# Altium integrated library Renesas Microcontroller 740.IntLib: 274 symbols (part 3 of 13)
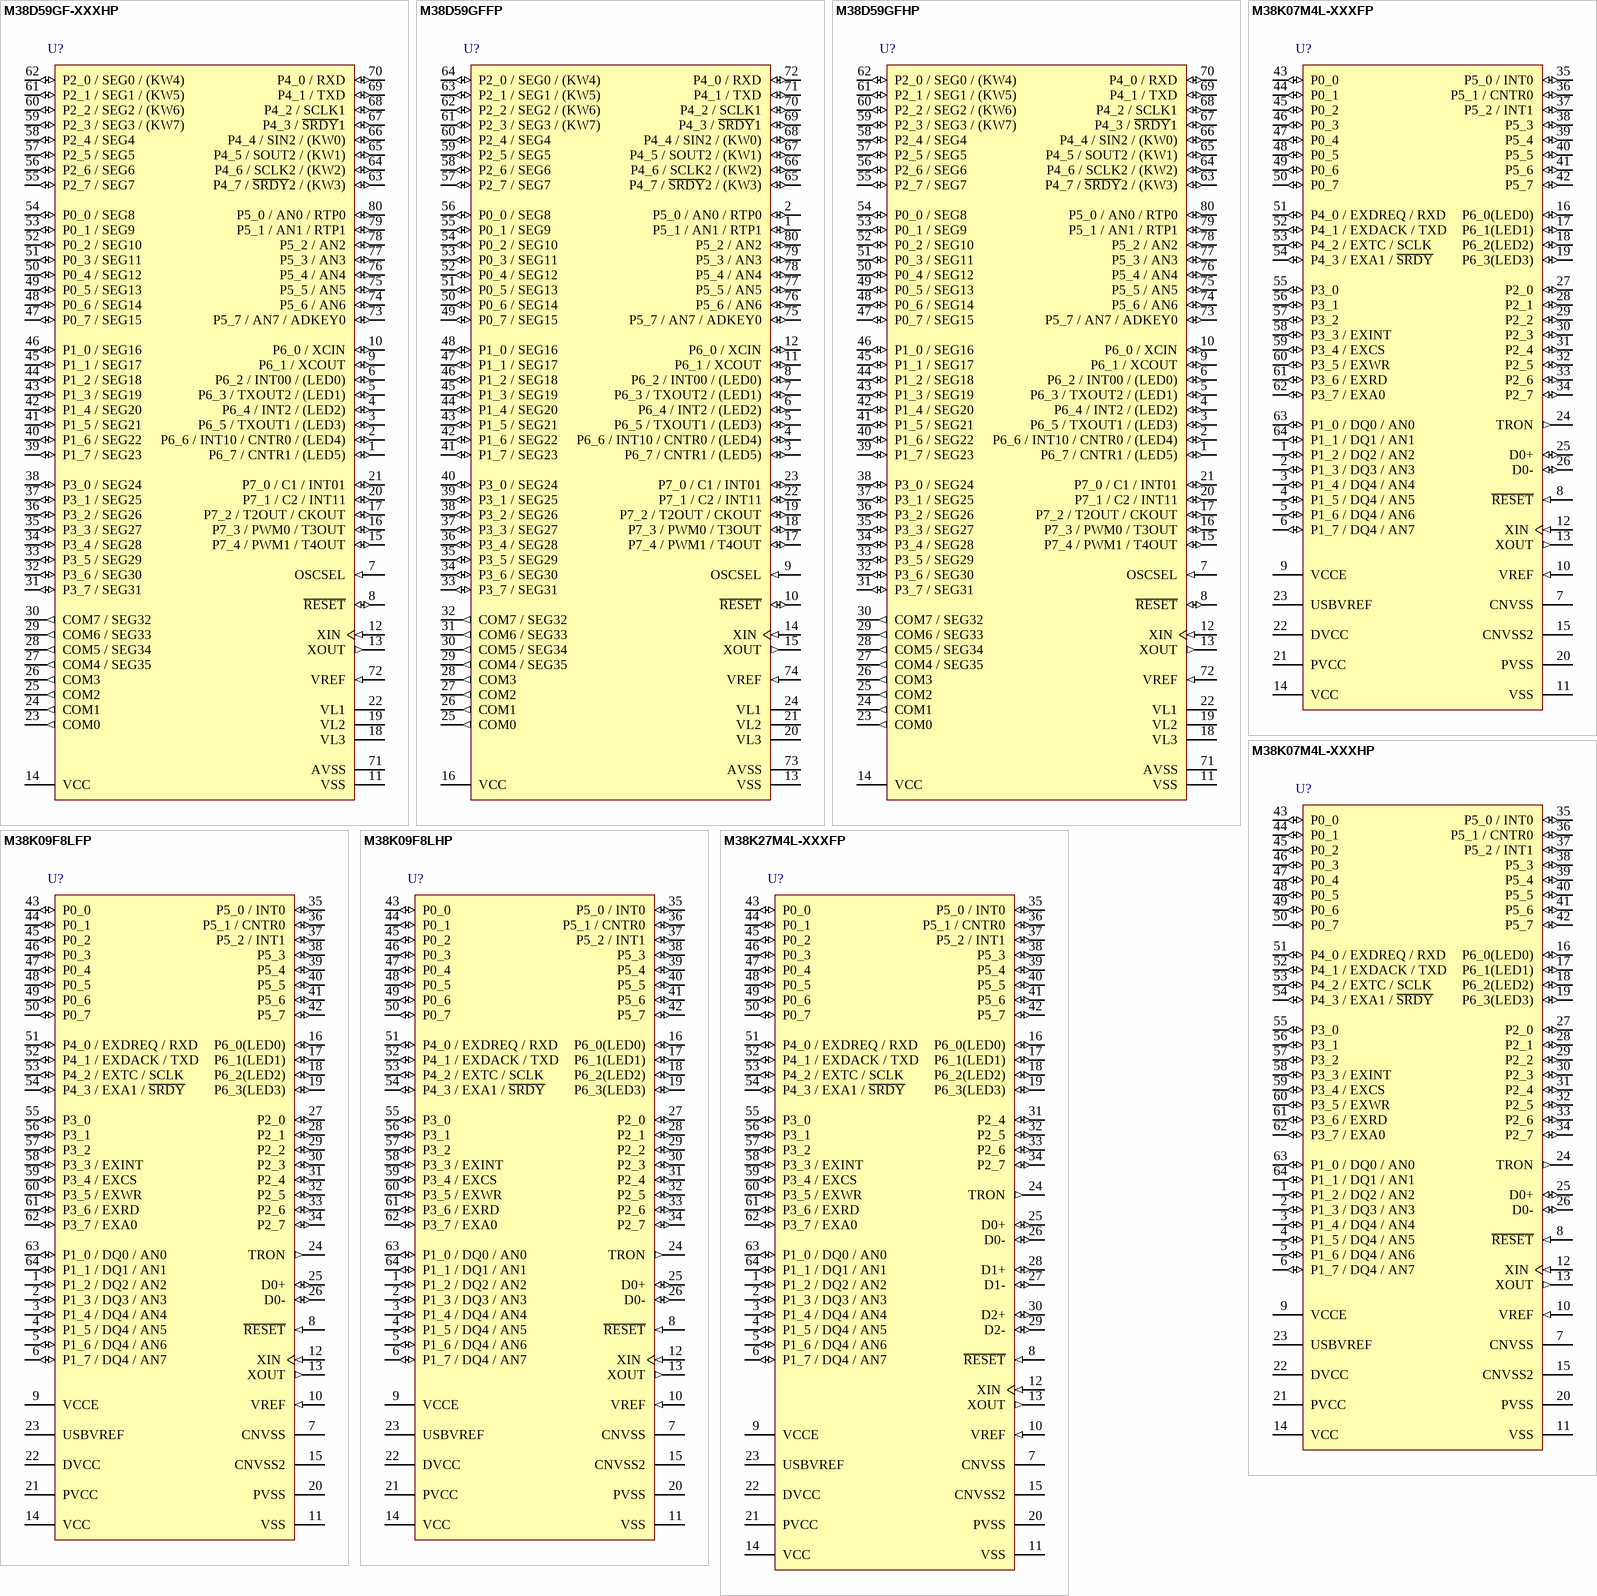
[diagram p39: symbols M38D59GF-XXXHP to M38K27M4L-XXXFP]

## M38K07M4L-XXXFP
designator U?
Mask ROM 8-BIT CMOS Microcomputer, 38000/740 Series CPU, 38K0 Group, 16K ROM, 1K RAM, 64P6U-A Pkg; Published: 28-Aug-2009; DatasheetVersion: Rev.2.00, Oct-2006; PackageVersion: Oct-2005; PackageReference: PLQP0064GA-A; Publisher: Altium Limited; PackageDescription: 64-Pin Plastic Low Profile QFP, 14 x 14 x 1.4 mm Body, 0.8 mm Pitch; Code_JEITA: P-LQFP64-14x14-0.80; ComponentLink1Description: Manufacturer Link; ComponentLink1URL: http://sg.renesas.com/fmwk.jsp?cnt=740_family_landing.jsp&fp=/products/mpumcu/740_family/; ComponentLink2Description: Datasheet; ComponentLink2URL: http://documentation.renesas.com/eng/products/mpumcu/rej09b0337_38k0um.pdf; ComponentLink3Description: Packaging Specification; ComponentLink3URL: http://sg.renesas.com/media/products/common_info/package/pdf/ic/code/plqp0064ga_a.pdf
footprint PLQP0064GA-A_N (QFP, 64-Leads, Body 14x14mm, Pitch 0.8mm, IPC Medium Density)
footprint PLQP0064GA-A_L (QFP, 64-Leads, Body 14x14mm, Pitch 0.8mm, IPC High Density)
footprint PLQP0064GA-A_M (QFP, 64-Leads, Body 14x14mm, Pitch 0.8mm, IPC Low Density)
pins: 1 P1_2 / DQ2 / AN2 (io), 2 P1_3 / DQ3 / AN3 (io), 3 P1_4 / DQ4 / AN4 (io), 4 P1_5 / DQ4 / AN5 (io), 5 P1_6 / DQ4 / AN6 (io), 6 P1_7 / DQ4 / AN7 (io), 7 CNVSS (power), 8 ~{RESET} (in), 9 VCCE (power), 10 VREF (in), 11 VSS (power), 12 XIN (in), 13 XOUT (out), 14 VCC (power), 15 CNVSS2 (power), 16 P6_0(LED0) (io), 17 P6_1(LED1) (io), 18 P6_2(LED2) (io), 19 P6_3(LED3) (io), 20 PVSS (power), 21 PVCC (power), 22 DVCC (power), 23 USBVREF (power), 24 TRON (out), 25 D0+ (io), 26 D0- (io), 27 P2_0 (io), 28 P2_1 (io), 29 P2_2 (io), 30 P2_3 (io), 31 P2_4 (io), 32 P2_5 (io), 33 P2_6 (io), 34 P2_7 (io), 35 P5_0 / INT0 (io), 36 P5_1 / CNTR0 (io), 37 P5_2 / INT1 (io), 38 P5_3 (io), 39 P5_4 (io), 40 P5_5 (io), 41 P5_6 (io), 42 P5_7 (io), 43 P0_0 (io), 44 P0_1 (io), 45 P0_2 (io), 46 P0_3 (io), 47 P0_4 (io), 48 P0_5 (io), 49 P0_6 (io), 50 P0_7 (io), 51 P4_0 / EXDREQ / RXD (io), 52 P4_1 / EXDACK / TXD (io), 53 P4_2 / EXTC / SCLK (io), 54 P4_3 / EXA1 / ~{SRDY} (io), 55 P3_0 (io), 56 P3_1 (io), 57 P3_2 (io), 58 P3_3 / EXINT (io), 59 P3_4 / EXCS (io), 60 P3_5 / EXWR (io), 61 P3_6 / EXRD (io), 62 P3_7 / EXA0 (io), 63 P1_0 / DQ0 / AN0 (io), 64 P1_1 / DQ1 / AN1 (io)

## M38K07M4L-XXXHP
designator U?
Mask ROM 8-BIT CMOS Microcomputer, 38000/740 Series CPU, 38K0 Group, 16K ROM, 1K RAM, 64P6Q-A Pkg; Published: 28-Aug-2009; DatasheetVersion: Rev.2.00, Oct-2006; PackageVersion: Sep-2005; PackageReference: PLQP0064KB-A; Publisher: Altium Limited; PackageDescription: 64-Pin Plastic Low Profile QFP, 10 x 10 x 1.4 mm Body, 0.5 mm Pitch; Code_JEITA: P-LQFP64-10x10-0.50; Code_IPC: SQFP50P1200X1200-64; ComponentLink1Description: Manufacturer Link; ComponentLink1URL: http://sg.renesas.com/fmwk.jsp?cnt=740_family_landing.jsp&fp=/products/mpumcu/740_family/; ComponentLink2Description: Datasheet; ComponentLink2URL: http://documentation.renesas.com/eng/products/mpumcu/rej09b0337_38k0um.pdf; ComponentLink3Description: Packaging Specification; ComponentLink3URL: http://sg.renesas.com/media/products/common_info/package/pdf/ic/code/plqp0064kb_a.pdf
footprint PLQP0064KB-A_N (Shrink QFP, 64-Leads, Body 10x10mm, Pitch 0.5mm, IPC Medium Density)
footprint PLQP0064KB-A_L (Shrink QFP, 64-Leads, Body 10x10mm, Pitch 0.5mm, IPC High Density)
footprint PLQP0064KB-A_M (Shrink QFP, 64-Leads, Body 10x10mm, Pitch 0.5mm, IPC Low Density)
pins: 1 P1_2 / DQ2 / AN2 (io), 2 P1_3 / DQ3 / AN3 (io), 3 P1_4 / DQ4 / AN4 (io), 4 P1_5 / DQ4 / AN5 (io), 5 P1_6 / DQ4 / AN6 (io), 6 P1_7 / DQ4 / AN7 (io), 7 CNVSS (power), 8 ~{RESET} (in), 9 VCCE (power), 10 VREF (in), 11 VSS (power), 12 XIN (in), 13 XOUT (out), 14 VCC (power), 15 CNVSS2 (power), 16 P6_0(LED0) (io), 17 P6_1(LED1) (io), 18 P6_2(LED2) (io), 19 P6_3(LED3) (io), 20 PVSS (power), 21 PVCC (power), 22 DVCC (power), 23 USBVREF (power), 24 TRON (out), 25 D0+ (io), 26 D0- (io), 27 P2_0 (io), 28 P2_1 (io), 29 P2_2 (io), 30 P2_3 (io), 31 P2_4 (io), 32 P2_5 (io), 33 P2_6 (io), 34 P2_7 (io), 35 P5_0 / INT0 (io), 36 P5_1 / CNTR0 (io), 37 P5_2 / INT1 (io), 38 P5_3 (io), 39 P5_4 (io), 40 P5_5 (io), 41 P5_6 (io), 42 P5_7 (io), 43 P0_0 (io), 44 P0_1 (io), 45 P0_2 (io), 46 P0_3 (io), 47 P0_4 (io), 48 P0_5 (io), 49 P0_6 (io), 50 P0_7 (io), 51 P4_0 / EXDREQ / RXD (io), 52 P4_1 / EXDACK / TXD (io), 53 P4_2 / EXTC / SCLK (io), 54 P4_3 / EXA1 / ~{SRDY} (io), 55 P3_0 (io), 56 P3_1 (io), 57 P3_2 (io), 58 P3_3 / EXINT (io), 59 P3_4 / EXCS (io), 60 P3_5 / EXWR (io), 61 P3_6 / EXRD (io), 62 P3_7 / EXA0 (io), 63 P1_0 / DQ0 / AN0 (io), 64 P1_1 / DQ1 / AN1 (io)

## M38K09F8LFP
designator U?
Flash Memory 8-BIT CMOS Microcomputer, 38000/740 Series CPU, 38K0 Group, 32K ROM, 2K RAM, 64P6U-A Pkg; Published: 28-Aug-2009; DatasheetVersion: Rev.2.00, Oct-2006; PackageVersion: Oct-2005; PackageReference: PLQP0064GA-A; Publisher: Altium Limited; PackageDescription: 64-Pin Plastic Low Profile QFP, 14 x 14 x 1.4 mm Body, 0.8 mm Pitch; Supplier 1: Digi-Key; Supplier Part Number 1: M38K09F8LFP-ND; Code_JEITA: P-LQFP64-14x14-0.80; ComponentLink1Description: Manufacturer Link; ComponentLink1URL: http://sg.renesas.com/fmwk.jsp?cnt=740_family_landing.jsp&fp=/products/mpumcu/740_family/; ComponentLink2Description: Datasheet; ComponentLink2URL: http://documentation.renesas.com/eng/products/mpumcu/rej09b0337_38k0um.pdf; ComponentLink3Description: Packaging Specification; ComponentLink3URL: http://sg.renesas.com/media/products/common_info/package/pdf/ic/code/plqp0064ga_a.pdf
footprint PLQP0064GA-A_N (QFP, 64-Leads, Body 14x14mm, Pitch 0.8mm, IPC Medium Density)
footprint PLQP0064GA-A_L (QFP, 64-Leads, Body 14x14mm, Pitch 0.8mm, IPC High Density)
footprint PLQP0064GA-A_M (QFP, 64-Leads, Body 14x14mm, Pitch 0.8mm, IPC Low Density)
pins: 1 P1_2 / DQ2 / AN2 (io), 2 P1_3 / DQ3 / AN3 (io), 3 P1_4 / DQ4 / AN4 (io), 4 P1_5 / DQ4 / AN5 (io), 5 P1_6 / DQ4 / AN6 (io), 6 P1_7 / DQ4 / AN7 (io), 7 CNVSS (power), 8 ~{RESET} (in), 9 VCCE (power), 10 VREF (in), 11 VSS (power), 12 XIN (in), 13 XOUT (out), 14 VCC (power), 15 CNVSS2 (power), 16 P6_0(LED0) (io), 17 P6_1(LED1) (io), 18 P6_2(LED2) (io), 19 P6_3(LED3) (io), 20 PVSS (power), 21 PVCC (power), 22 DVCC (power), 23 USBVREF (power), 24 TRON (out), 25 D0+ (io), 26 D0- (io), 27 P2_0 (io), 28 P2_1 (io), 29 P2_2 (io), 30 P2_3 (io), 31 P2_4 (io), 32 P2_5 (io), 33 P2_6 (io), 34 P2_7 (io), 35 P5_0 / INT0 (io), 36 P5_1 / CNTR0 (io), 37 P5_2 / INT1 (io), 38 P5_3 (io), 39 P5_4 (io), 40 P5_5 (io), 41 P5_6 (io), 42 P5_7 (io), 43 P0_0 (io), 44 P0_1 (io), 45 P0_2 (io), 46 P0_3 (io), 47 P0_4 (io), 48 P0_5 (io), 49 P0_6 (io), 50 P0_7 (io), 51 P4_0 / EXDREQ / RXD (io), 52 P4_1 / EXDACK / TXD (io), 53 P4_2 / EXTC / SCLK (io), 54 P4_3 / EXA1 / ~{SRDY} (io), 55 P3_0 (io), 56 P3_1 (io), 57 P3_2 (io), 58 P3_3 / EXINT (io), 59 P3_4 / EXCS (io), 60 P3_5 / EXWR (io), 61 P3_6 / EXRD (io), 62 P3_7 / EXA0 (io), 63 P1_0 / DQ0 / AN0 (io), 64 P1_1 / DQ1 / AN1 (io)

## M38K09F8LHP
designator U?
Flash Memory 8-BIT CMOS Microcomputer, 38000/740 Series CPU, 38K0 Group, 32K ROM, 2K RAM, 64P6Q-A Pkg; Published: 28-Aug-2009; DatasheetVersion: Rev.2.00, Oct-2006; PackageVersion: Sep-2005; PackageReference: PLQP0064KB-A; Publisher: Altium Limited; PackageDescription: 64-Pin Plastic Low Profile QFP, 10 x 10 x 1.4 mm Body, 0.5 mm Pitch; Supplier 1: Digi-Key; Supplier Part Number 1: M38K09F8LHP-ND; Code_JEITA: P-LQFP64-10x10-0.50; Code_IPC: SQFP50P1200X1200-64; ComponentLink1Description: Manufacturer Link; ComponentLink1URL: http://sg.renesas.com/fmwk.jsp?cnt=740_family_landing.jsp&fp=/products/mpumcu/740_family/; ComponentLink2Description: Datasheet; ComponentLink2URL: http://documentation.renesas.com/eng/products/mpumcu/rej09b0337_38k0um.pdf; ComponentLink3Description: Packaging Specification; ComponentLink3URL: http://sg.renesas.com/media/products/common_info/package/pdf/ic/code/plqp0064kb_a.pdf
footprint PLQP0064KB-A_N (Shrink QFP, 64-Leads, Body 10x10mm, Pitch 0.5mm, IPC Medium Density)
footprint PLQP0064KB-A_L (Shrink QFP, 64-Leads, Body 10x10mm, Pitch 0.5mm, IPC High Density)
footprint PLQP0064KB-A_M (Shrink QFP, 64-Leads, Body 10x10mm, Pitch 0.5mm, IPC Low Density)
pins: 1 P1_2 / DQ2 / AN2 (io), 2 P1_3 / DQ3 / AN3 (io), 3 P1_4 / DQ4 / AN4 (io), 4 P1_5 / DQ4 / AN5 (io), 5 P1_6 / DQ4 / AN6 (io), 6 P1_7 / DQ4 / AN7 (io), 7 CNVSS (power), 8 ~{RESET} (in), 9 VCCE (power), 10 VREF (in), 11 VSS (power), 12 XIN (in), 13 XOUT (out), 14 VCC (power), 15 CNVSS2 (power), 16 P6_0(LED0) (io), 17 P6_1(LED1) (io), 18 P6_2(LED2) (io), 19 P6_3(LED3) (io), 20 PVSS (power), 21 PVCC (power), 22 DVCC (power), 23 USBVREF (power), 24 TRON (out), 25 D0+ (io), 26 D0- (io), 27 P2_0 (io), 28 P2_1 (io), 29 P2_2 (io), 30 P2_3 (io), 31 P2_4 (io), 32 P2_5 (io), 33 P2_6 (io), 34 P2_7 (io), 35 P5_0 / INT0 (io), 36 P5_1 / CNTR0 (io), 37 P5_2 / INT1 (io), 38 P5_3 (io), 39 P5_4 (io), 40 P5_5 (io), 41 P5_6 (io), 42 P5_7 (io), 43 P0_0 (io), 44 P0_1 (io), 45 P0_2 (io), 46 P0_3 (io), 47 P0_4 (io), 48 P0_5 (io), 49 P0_6 (io), 50 P0_7 (io), 51 P4_0 / EXDREQ / RXD (io), 52 P4_1 / EXDACK / TXD (io), 53 P4_2 / EXTC / SCLK (io), 54 P4_3 / EXA1 / ~{SRDY} (io), 55 P3_0 (io), 56 P3_1 (io), 57 P3_2 (io), 58 P3_3 / EXINT (io), 59 P3_4 / EXCS (io), 60 P3_5 / EXWR (io), 61 P3_6 / EXRD (io), 62 P3_7 / EXA0 (io), 63 P1_0 / DQ0 / AN0 (io), 64 P1_1 / DQ1 / AN1 (io)

## M38K27M4L-XXXFP
designator U?
Mask ROM 8-BIT CMOS Microcomputer, 38000/740 Series CPU, 38K2 Group, 16K ROM, 1K RAM, 64P6U-A Pkg; Published: 28-Aug-2009; DatasheetVersion: Rev.2.00, Oct-2006; PackageVersion: Oct-2005; PackageReference: PLQP0064GA-A; Publisher: Altium Limited; PackageDescription: 64-Pin Plastic Low Profile QFP, 14 x 14 x 1.4 mm Body, 0.8 mm Pitch; Code_JEITA: P-LQFP64-14x14-0.80; ComponentLink1Description: Manufacturer Link; ComponentLink1URL: http://sg.renesas.com/fmwk.jsp?cnt=740_family_landing.jsp&fp=/products/mpumcu/740_family/; ComponentLink2Description: Datasheet; ComponentLink2URL: http://documentation.renesas.com/eng/products/mpumcu/rej09b0338_38k2um.pdf; ComponentLink3Description: Packaging Specification; ComponentLink3URL: http://sg.renesas.com/media/products/common_info/package/pdf/ic/code/plqp0064ga_a.pdf
footprint PLQP0064GA-A_N (QFP, 64-Leads, Body 14x14mm, Pitch 0.8mm, IPC Medium Density)
footprint PLQP0064GA-A_L (QFP, 64-Leads, Body 14x14mm, Pitch 0.8mm, IPC High Density)
footprint PLQP0064GA-A_M (QFP, 64-Leads, Body 14x14mm, Pitch 0.8mm, IPC Low Density)
pins: 1 P1_2 / DQ2 / AN2 (io), 2 P1_3 / DQ3 / AN3 (io), 3 P1_4 / DQ4 / AN4 (io), 4 P1_5 / DQ4 / AN5 (io), 5 P1_6 / DQ4 / AN6 (io), 6 P1_7 / DQ4 / AN7 (io), 7 CNVSS (power), 8 ~{RESET} (in), 9 VCCE (power), 10 VREF (in), 11 VSS (power), 12 XIN (in), 13 XOUT (out), 14 VCC (power), 15 CNVSS2 (power), 16 P6_0(LED0) (io), 17 P6_1(LED1) (io), 18 P6_2(LED2) (io), 19 P6_3(LED3) (io), 20 PVSS (power), 21 PVCC (power), 22 DVCC (power), 23 USBVREF (power), 24 TRON (out), 25 D0+ (io), 26 D0- (io), 27 D1- (io), 28 D1+ (io), 29 D2- (io), 30 D2+ (io), 31 P2_4 (io), 32 P2_5 (io), 33 P2_6 (io), 34 P2_7 (io), 35 P5_0 / INT0 (io), 36 P5_1 / CNTR0 (io), 37 P5_2 / INT1 (io), 38 P5_3 (io), 39 P5_4 (io), 40 P5_5 (io), 41 P5_6 (io), 42 P5_7 (io), 43 P0_0 (io), 44 P0_1 (io), 45 P0_2 (io), 46 P0_3 (io), 47 P0_4 (io), 48 P0_5 (io), 49 P0_6 (io), 50 P0_7 (io), 51 P4_0 / EXDREQ / RXD (io), 52 P4_1 / EXDACK / TXD (io), 53 P4_2 / EXTC / SCLK (io), 54 P4_3 / EXA1 / ~{SRDY} (io), 55 P3_0 (io), 56 P3_1 (io), 57 P3_2 (io), 58 P3_3 / EXINT (io), 59 P3_4 / EXCS (io), 60 P3_5 / EXWR (io), 61 P3_6 / EXRD (io), 62 P3_7 / EXA0 (io), 63 P1_0 / DQ0 / AN0 (io), 64 P1_1 / DQ1 / AN1 (io)

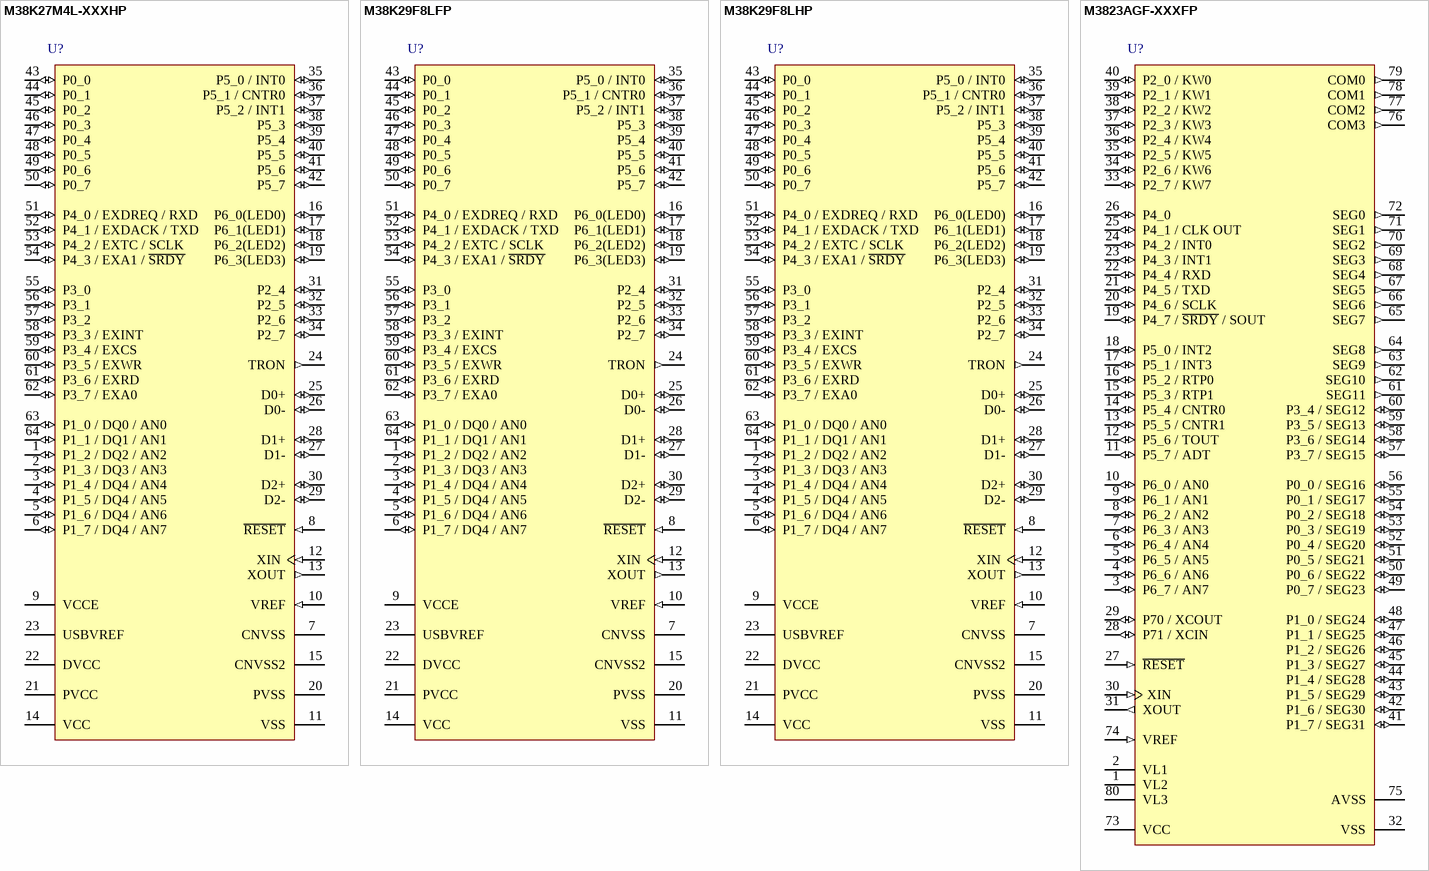
[diagram p8: symbols M38K27M4L-XXXHP to M3823AGF-XXXFP]

## M38K27M4L-XXXHP
designator U?
Mask ROM 8-BIT CMOS Microcomputer, 38000/740 Series CPU, 38K2 Group, 16K ROM, 1K RAM, 64P6Q-A Pkg; Published: 28-Aug-2009; DatasheetVersion: Rev.2.00, Oct-2006; PackageVersion: Sep-2005; PackageReference: PLQP0064KB-A; Publisher: Altium Limited; PackageDescription: 64-Pin Plastic Low Profile QFP, 10 x 10 x 1.4 mm Body, 0.5 mm Pitch; Code_JEITA: P-LQFP64-10x10-0.50; Code_IPC: SQFP50P1200X1200-64; ComponentLink1Description: Manufacturer Link; ComponentLink1URL: http://sg.renesas.com/fmwk.jsp?cnt=740_family_landing.jsp&fp=/products/mpumcu/740_family/; ComponentLink2Description: Datasheet; ComponentLink2URL: http://documentation.renesas.com/eng/products/mpumcu/rej09b0338_38k2um.pdf; ComponentLink3Description: Packaging Specification; ComponentLink3URL: http://sg.renesas.com/media/products/common_info/package/pdf/ic/code/plqp0064kb_a.pdf
footprint PLQP0064KB-A_N (Shrink QFP, 64-Leads, Body 10x10mm, Pitch 0.5mm, IPC Medium Density)
footprint PLQP0064KB-A_L (Shrink QFP, 64-Leads, Body 10x10mm, Pitch 0.5mm, IPC High Density)
footprint PLQP0064KB-A_M (Shrink QFP, 64-Leads, Body 10x10mm, Pitch 0.5mm, IPC Low Density)
pins: 1 P1_2 / DQ2 / AN2 (io), 2 P1_3 / DQ3 / AN3 (io), 3 P1_4 / DQ4 / AN4 (io), 4 P1_5 / DQ4 / AN5 (io), 5 P1_6 / DQ4 / AN6 (io), 6 P1_7 / DQ4 / AN7 (io), 7 CNVSS (power), 8 ~{RESET} (in), 9 VCCE (power), 10 VREF (in), 11 VSS (power), 12 XIN (in), 13 XOUT (out), 14 VCC (power), 15 CNVSS2 (power), 16 P6_0(LED0) (io), 17 P6_1(LED1) (io), 18 P6_2(LED2) (io), 19 P6_3(LED3) (io), 20 PVSS (power), 21 PVCC (power), 22 DVCC (power), 23 USBVREF (power), 24 TRON (out), 25 D0+ (io), 26 D0- (io), 27 D1- (io), 28 D1+ (io), 29 D2- (io), 30 D2+ (io), 31 P2_4 (io), 32 P2_5 (io), 33 P2_6 (io), 34 P2_7 (io), 35 P5_0 / INT0 (io), 36 P5_1 / CNTR0 (io), 37 P5_2 / INT1 (io), 38 P5_3 (io), 39 P5_4 (io), 40 P5_5 (io), 41 P5_6 (io), 42 P5_7 (io), 43 P0_0 (io), 44 P0_1 (io), 45 P0_2 (io), 46 P0_3 (io), 47 P0_4 (io), 48 P0_5 (io), 49 P0_6 (io), 50 P0_7 (io), 51 P4_0 / EXDREQ / RXD (io), 52 P4_1 / EXDACK / TXD (io), 53 P4_2 / EXTC / SCLK (io), 54 P4_3 / EXA1 / ~{SRDY} (io), 55 P3_0 (io), 56 P3_1 (io), 57 P3_2 (io), 58 P3_3 / EXINT (io), 59 P3_4 / EXCS (io), 60 P3_5 / EXWR (io), 61 P3_6 / EXRD (io), 62 P3_7 / EXA0 (io), 63 P1_0 / DQ0 / AN0 (io), 64 P1_1 / DQ1 / AN1 (io)

## M38K29F8LFP
designator U?
Flash Memory 8-BIT CMOS Microcomputer, 38000/740 Series CPU, 38K2 Group, 32K ROM, 2K RAM, 64P6U-A Pkg; Published: 28-Aug-2009; DatasheetVersion: Rev.2.00, Oct-2006; PackageVersion: Oct-2005; PackageReference: PLQP0064GA-A; Publisher: Altium Limited; PackageDescription: 64-Pin Plastic Low Profile QFP, 14 x 14 x 1.4 mm Body, 0.8 mm Pitch; Supplier 1: Digi-Key; Supplier Part Number 1: M38K29F8LFP-ND; Code_JEITA: P-LQFP64-14x14-0.80; ComponentLink1Description: Manufacturer Link; ComponentLink1URL: http://sg.renesas.com/fmwk.jsp?cnt=740_family_landing.jsp&fp=/products/mpumcu/740_family/; ComponentLink2Description: Datasheet; ComponentLink2URL: http://documentation.renesas.com/eng/products/mpumcu/rej09b0338_38k2um.pdf; ComponentLink3Description: Packaging Specification; ComponentLink3URL: http://sg.renesas.com/media/products/common_info/package/pdf/ic/code/plqp0064ga_a.pdf
footprint PLQP0064GA-A_N (QFP, 64-Leads, Body 14x14mm, Pitch 0.8mm, IPC Medium Density)
footprint PLQP0064GA-A_L (QFP, 64-Leads, Body 14x14mm, Pitch 0.8mm, IPC High Density)
footprint PLQP0064GA-A_M (QFP, 64-Leads, Body 14x14mm, Pitch 0.8mm, IPC Low Density)
pins: 1 P1_2 / DQ2 / AN2 (io), 2 P1_3 / DQ3 / AN3 (io), 3 P1_4 / DQ4 / AN4 (io), 4 P1_5 / DQ4 / AN5 (io), 5 P1_6 / DQ4 / AN6 (io), 6 P1_7 / DQ4 / AN7 (io), 7 CNVSS (power), 8 ~{RESET} (in), 9 VCCE (power), 10 VREF (in), 11 VSS (power), 12 XIN (in), 13 XOUT (out), 14 VCC (power), 15 CNVSS2 (power), 16 P6_0(LED0) (io), 17 P6_1(LED1) (io), 18 P6_2(LED2) (io), 19 P6_3(LED3) (io), 20 PVSS (power), 21 PVCC (power), 22 DVCC (power), 23 USBVREF (power), 24 TRON (out), 25 D0+ (io), 26 D0- (io), 27 D1- (io), 28 D1+ (io), 29 D2- (io), 30 D2+ (io), 31 P2_4 (io), 32 P2_5 (io), 33 P2_6 (io), 34 P2_7 (io), 35 P5_0 / INT0 (io), 36 P5_1 / CNTR0 (io), 37 P5_2 / INT1 (io), 38 P5_3 (io), 39 P5_4 (io), 40 P5_5 (io), 41 P5_6 (io), 42 P5_7 (io), 43 P0_0 (io), 44 P0_1 (io), 45 P0_2 (io), 46 P0_3 (io), 47 P0_4 (io), 48 P0_5 (io), 49 P0_6 (io), 50 P0_7 (io), 51 P4_0 / EXDREQ / RXD (io), 52 P4_1 / EXDACK / TXD (io), 53 P4_2 / EXTC / SCLK (io), 54 P4_3 / EXA1 / ~{SRDY} (io), 55 P3_0 (io), 56 P3_1 (io), 57 P3_2 (io), 58 P3_3 / EXINT (io), 59 P3_4 / EXCS (io), 60 P3_5 / EXWR (io), 61 P3_6 / EXRD (io), 62 P3_7 / EXA0 (io), 63 P1_0 / DQ0 / AN0 (io), 64 P1_1 / DQ1 / AN1 (io)

## M38K29F8LHP
designator U?
Flash Memory 8-BIT CMOS Microcomputer, 38000/740 Series CPU, 38K2 Group, 32K ROM, 2K RAM, 64P6Q-A Pkg; Published: 28-Aug-2009; DatasheetVersion: Rev.2.00, Oct-2006; PackageVersion: Sep-2005; PackageReference: PLQP0064KB-A; Publisher: Altium Limited; PackageDescription: 64-Pin Plastic Low Profile QFP, 10 x 10 x 1.4 mm Body, 0.5 mm Pitch; Supplier 1: Digi-Key; Supplier Part Number 1: M38K29F8LHP-ND; Code_JEITA: P-LQFP64-10x10-0.50; Code_IPC: SQFP50P1200X1200-64; ComponentLink1Description: Manufacturer Link; ComponentLink1URL: http://sg.renesas.com/fmwk.jsp?cnt=740_family_landing.jsp&fp=/products/mpumcu/740_family/; ComponentLink2Description: Datasheet; ComponentLink2URL: http://documentation.renesas.com/eng/products/mpumcu/rej09b0338_38k2um.pdf; ComponentLink3Description: Packaging Specification; ComponentLink3URL: http://sg.renesas.com/media/products/common_info/package/pdf/ic/code/plqp0064kb_a.pdf
footprint PLQP0064KB-A_N (Shrink QFP, 64-Leads, Body 10x10mm, Pitch 0.5mm, IPC Medium Density)
footprint PLQP0064KB-A_L (Shrink QFP, 64-Leads, Body 10x10mm, Pitch 0.5mm, IPC High Density)
footprint PLQP0064KB-A_M (Shrink QFP, 64-Leads, Body 10x10mm, Pitch 0.5mm, IPC Low Density)
pins: 1 P1_2 / DQ2 / AN2 (io), 2 P1_3 / DQ3 / AN3 (io), 3 P1_4 / DQ4 / AN4 (io), 4 P1_5 / DQ4 / AN5 (io), 5 P1_6 / DQ4 / AN6 (io), 6 P1_7 / DQ4 / AN7 (io), 7 CNVSS (power), 8 ~{RESET} (in), 9 VCCE (power), 10 VREF (in), 11 VSS (power), 12 XIN (in), 13 XOUT (out), 14 VCC (power), 15 CNVSS2 (power), 16 P6_0(LED0) (io), 17 P6_1(LED1) (io), 18 P6_2(LED2) (io), 19 P6_3(LED3) (io), 20 PVSS (power), 21 PVCC (power), 22 DVCC (power), 23 USBVREF (power), 24 TRON (out), 25 D0+ (io), 26 D0- (io), 27 D1- (io), 28 D1+ (io), 29 D2- (io), 30 D2+ (io), 31 P2_4 (io), 32 P2_5 (io), 33 P2_6 (io), 34 P2_7 (io), 35 P5_0 / INT0 (io), 36 P5_1 / CNTR0 (io), 37 P5_2 / INT1 (io), 38 P5_3 (io), 39 P5_4 (io), 40 P5_5 (io), 41 P5_6 (io), 42 P5_7 (io), 43 P0_0 (io), 44 P0_1 (io), 45 P0_2 (io), 46 P0_3 (io), 47 P0_4 (io), 48 P0_5 (io), 49 P0_6 (io), 50 P0_7 (io), 51 P4_0 / EXDREQ / RXD (io), 52 P4_1 / EXDACK / TXD (io), 53 P4_2 / EXTC / SCLK (io), 54 P4_3 / EXA1 / ~{SRDY} (io), 55 P3_0 (io), 56 P3_1 (io), 57 P3_2 (io), 58 P3_3 / EXINT (io), 59 P3_4 / EXCS (io), 60 P3_5 / EXWR (io), 61 P3_6 / EXRD (io), 62 P3_7 / EXA0 (io), 63 P1_0 / DQ0 / AN0 (io), 64 P1_1 / DQ1 / AN1 (io)

## M3823AGF-XXXFP
designator U?
QzROM 8-BIT CMOS Microcomputer, 38000/740 Series CPU, 3823 Group, 60K ROM, 2.5K RAM, 80P6N-A Pkg; Published: 28-Aug-2009; DatasheetVersion: Rev.2.02, Jun-2007; PackageVersion: Sep-2005; PackageReference: PRQP0080GB-A; Publisher: Altium Limited; PackageDescription: 80-Pin Plastic Quad Flat Pack, 20 x 14 x 2.8 mm Body, 0.8 mm Pitch; Code_JEITA: P-QFP80-14x20-0.80; ComponentLink1Description: Manufacturer Link; ComponentLink1URL: http://sg.renesas.com/fmwk.jsp?cnt=740_family_landing.jsp&fp=/products/mpumcu/740_family/; ComponentLink2Description: Datasheet; ComponentLink2URL: http://documentation.renesas.com/eng/products/mpumcu/rej03b0146_3823ds.pdf; ComponentLink3Description: Packaging Specification; ComponentLink3URL: http://sg.renesas.com/media/products/common_info/package/pdf/ic/code/prqp0080gb_a.pdf
footprint PRQP0080GB-A_N (QFP, 80-Leads, Body 20x14mm, Pitch 0.8mm, IPC Medium Density)
footprint PRQP0080GB-A_L (QFP, 80-Leads, Body 20x14mm, Pitch 0.8mm, IPC High Density)
footprint PRQP0080GB-A_M (QFP, 80-Leads, Body 20x14mm, Pitch 0.8mm, IPC Low Density)
pins: 1 VL2 (power), 2 VL1 (power), 3 P6_7 / AN7 (io), 4 P6_6 / AN6 (io), 5 P6_5 / AN5 (io), 6 P6_4 / AN4 (io), 7 P6_3 / AN3 (io), 8 P6_2 / AN2 (io), 9 P6_1 / AN1 (io), 10 P6_0 / AN0 (io), 11 P5_7 / ADT (io), 12 P5_6 / TOUT (io), 13 P5_5 / CNTR1 (io), 14 P5_4 / CNTR0 (io), 15 P5_3 / RTP1 (io), 16 P5_2 / RTP0 (io), 17 P5_1 / INT3 (io), 18 P5_0 / INT2 (io), 19 P4_7 / ~{SRDY} / SOUT (io), 20 P4_6 / SCLK (io), 21 P4_5 / TXD (io), 22 P4_4 / RXD (io), 23 P4_3 / INT1 (io), 24 P4_2 / INT0 (io), 25 P4_1 / CLK OUT (io), 26 P4_0 (io), 27 ~{RESET} (in), 28 P71 / XCIN (io), 29 P70 / XCOUT (io), 30 XIN (in), 31 XOUT (out), 32 VSS (power), 33 P2_7 / KW7 (io), 34 P2_6 / KW6 (io), 35 P2_5 / KW5 (io), 36 P2_4 / KW4 (io), 37 P2_3 / KW3 (io), 38 P2_2 / KW2 (io), 39 P2_1 / KW1 (io), 40 P2_0 / KW0 (io), 41 P1_7 / SEG31 (io), 42 P1_6 / SEG30 (io), 43 P1_5 / SEG29 (io), 44 P1_4 / SEG28 (io), 45 P1_3 / SEG27 (io), 46 P1_2 / SEG26 (io), 47 P1_1 / SEG25 (io), 48 P1_0 / SEG24 (io), 49 P0_7 / SEG23 (io), 50 P0_6 / SEG22 (io), 51 P0_5 / SEG21 (io), 52 P0_4 / SEG20 (io), 53 P0_3 / SEG19 (io), 54 P0_2 / SEG18 (io), 55 P0_1 / SEG17 (io), 56 P0_0 / SEG16 (io), 57 P3_7 / SEG15 (io), 58 P3_6 / SEG14 (io), 59 P3_5 / SEG13 (io), 60 P3_4 / SEG12 (io), 61 SEG11 (out), 62 SEG10 (out), 63 SEG9 (out), 64 SEG8 (out), 65 SEG7 (out), 66 SEG6 (out), 67 SEG5 (out), 68 SEG4 (out), 69 SEG3 (out), 70 SEG2 (out), 71 SEG1 (out), 72 SEG0 (out), 73 VCC (power), 74 VREF (in), 75 AVSS (power), 76 COM3 (out), 77 COM2 (out), 78 COM1 (out), 79 COM0 (out), 80 VL3 (power)

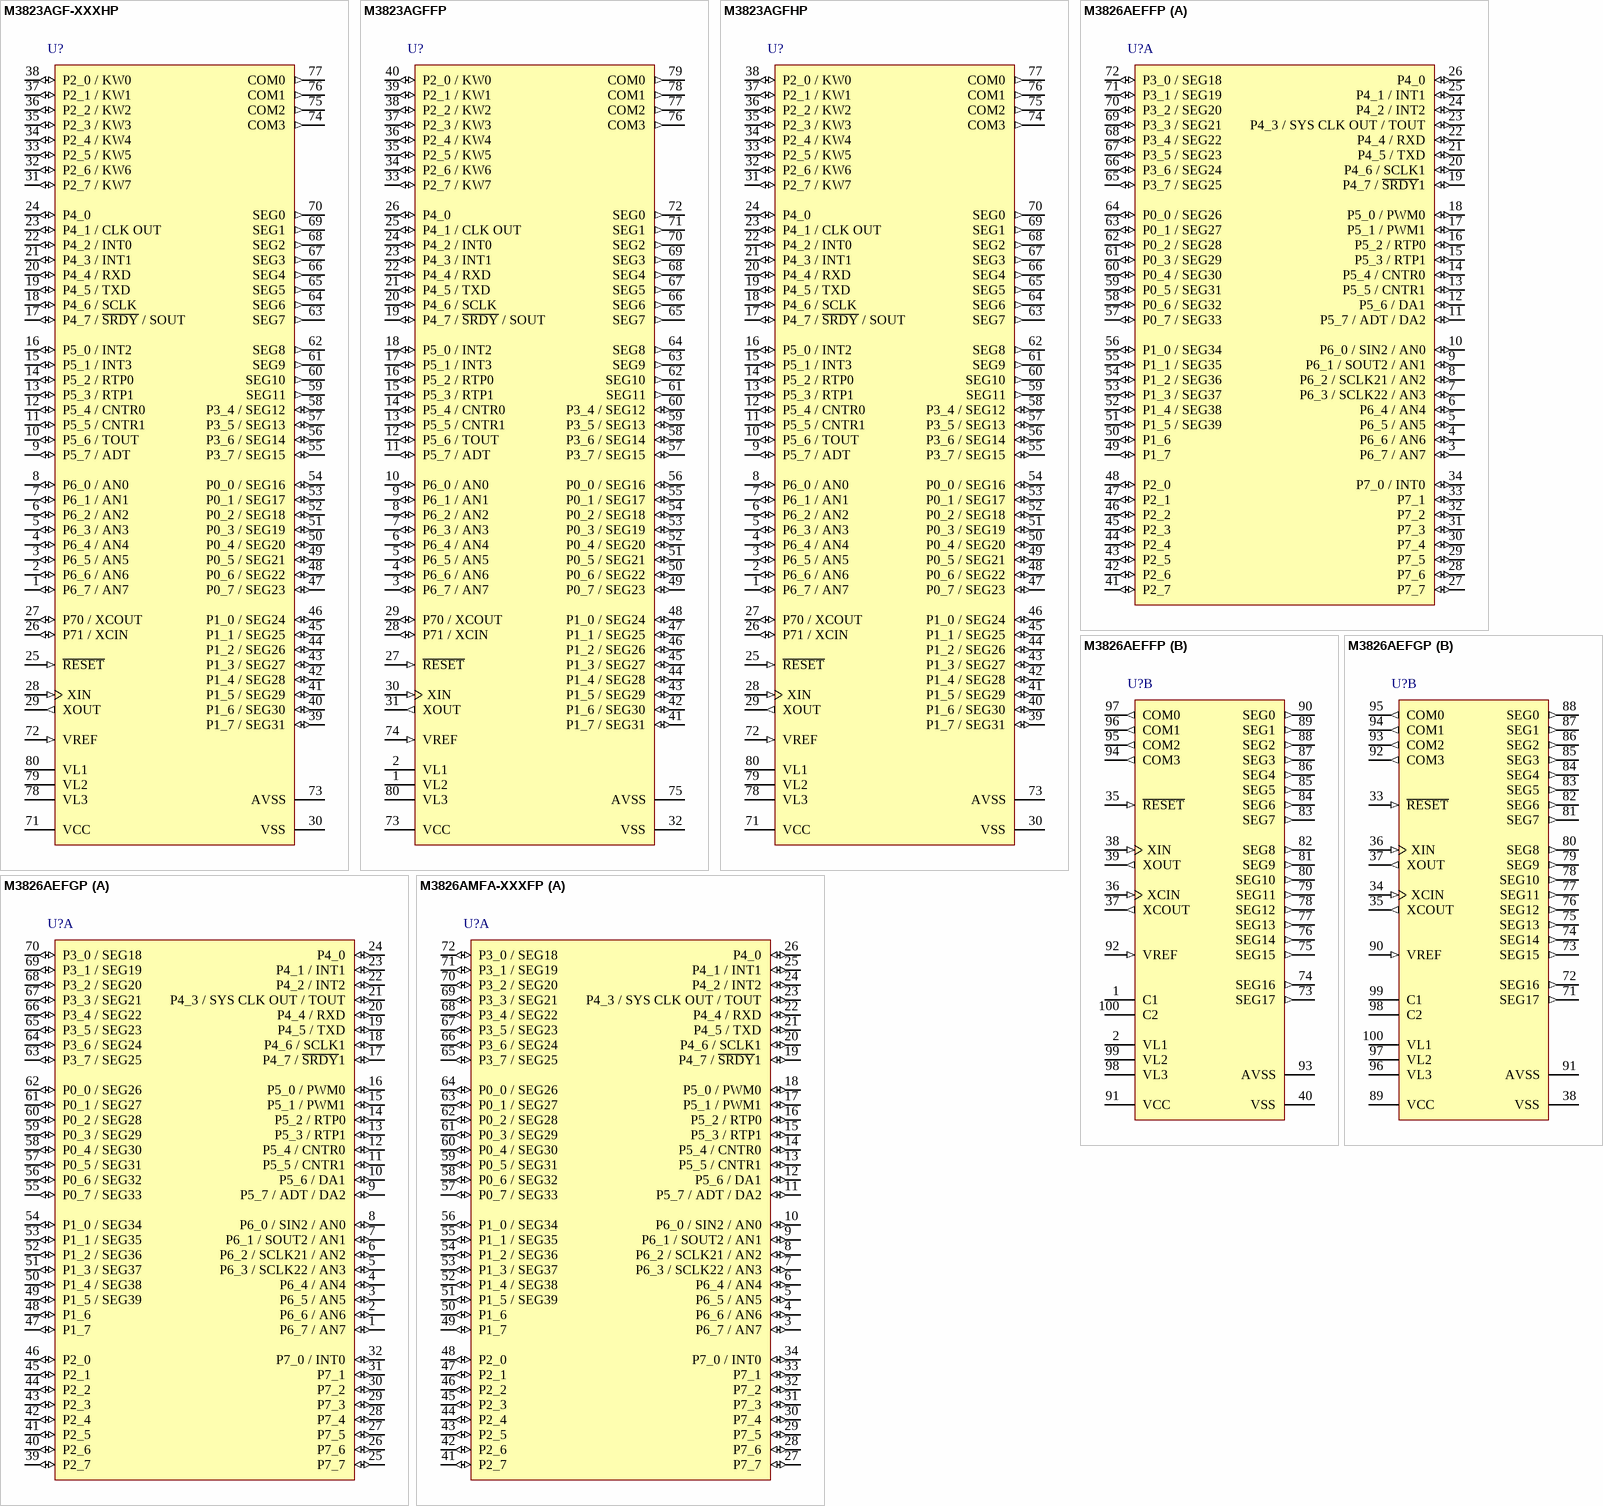
[diagram p9: symbols M3823AGF-XXXHP to M3826AMFA-XXXFP]

## M3823AGF-XXXHP
designator U?
QzROM 8-BIT CMOS Microcomputer, 38000/740 Series CPU, 3823 Group, 60K ROM, 2.5K RAM, 80P6Q-A Pkg; Published: 28-Aug-2009; DatasheetVersion: Rev.2.02, Jun-2007; PackageVersion: Sep-2005; PackageReference: PLQP0080KB-A; Publisher: Altium Limited; PackageDescription: 80-Pin Plastic Low Profile QFP, 12 x 12 x 1.4 mm Body, 0.5 mm Pitch; Code_JEITA: P-LQFP80-12x12-0.50; Code_IPC: SQFP50P1400X1400-80; ComponentLink1Description: Manufacturer Link; ComponentLink1URL: http://sg.renesas.com/fmwk.jsp?cnt=740_family_landing.jsp&fp=/products/mpumcu/740_family/; ComponentLink2Description: Datasheet; ComponentLink2URL: http://documentation.renesas.com/eng/products/mpumcu/rej03b0146_3823ds.pdf; ComponentLink3Description: Packaging Specification; ComponentLink3URL: http://sg.renesas.com/media/products/common_info/package/pdf/ic/code/plqp0080kb_a.pdf
footprint PLQP0080KB-A_N (Shrink QFP, 80-Leads, Body 12x12mm, Pitch 0.5mm, IPC Medium Density)
footprint PLQP0080KB-A_L (Shrink QFP, 80-Leads, Body 12x12mm, Pitch 0.5mm, IPC High Density)
footprint PLQP0080KB-A_M (Shrink QFP, 80-Leads, Body 12x12mm, Pitch 0.5mm, IPC Low Density)
pins: 1 P6_7 / AN7 (io), 2 P6_6 / AN6 (io), 3 P6_5 / AN5 (io), 4 P6_4 / AN4 (io), 5 P6_3 / AN3 (io), 6 P6_2 / AN2 (io), 7 P6_1 / AN1 (io), 8 P6_0 / AN0 (io), 9 P5_7 / ADT (io), 10 P5_6 / TOUT (io), 11 P5_5 / CNTR1 (io), 12 P5_4 / CNTR0 (io), 13 P5_3 / RTP1 (io), 14 P5_2 / RTP0 (io), 15 P5_1 / INT3 (io), 16 P5_0 / INT2 (io), 17 P4_7 / ~{SRDY} / SOUT (io), 18 P4_6 / SCLK (io), 19 P4_5 / TXD (io), 20 P4_4 / RXD (io), 21 P4_3 / INT1 (io), 22 P4_2 / INT0 (io), 23 P4_1 / CLK OUT (io), 24 P4_0 (io), 25 ~{RESET} (in), 26 P71 / XCIN (io), 27 P70 / XCOUT (io), 28 XIN (in), 29 XOUT (out), 30 VSS (power), 31 P2_7 / KW7 (io), 32 P2_6 / KW6 (io), 33 P2_5 / KW5 (io), 34 P2_4 / KW4 (io), 35 P2_3 / KW3 (io), 36 P2_2 / KW2 (io), 37 P2_1 / KW1 (io), 38 P2_0 / KW0 (io), 39 P1_7 / SEG31 (io), 40 P1_6 / SEG30 (io), 41 P1_5 / SEG29 (io), 42 P1_4 / SEG28 (io), 43 P1_3 / SEG27 (io), 44 P1_2 / SEG26 (io), 45 P1_1 / SEG25 (io), 46 P1_0 / SEG24 (io), 47 P0_7 / SEG23 (io), 48 P0_6 / SEG22 (io), 49 P0_5 / SEG21 (io), 50 P0_4 / SEG20 (io), 51 P0_3 / SEG19 (io), 52 P0_2 / SEG18 (io), 53 P0_1 / SEG17 (io), 54 P0_0 / SEG16 (io), 55 P3_7 / SEG15 (io), 56 P3_6 / SEG14 (io), 57 P3_5 / SEG13 (io), 58 P3_4 / SEG12 (io), 59 SEG11 (out), 60 SEG10 (out), 61 SEG9 (out), 62 SEG8 (out), 63 SEG7 (out), 64 SEG6 (out), 65 SEG5 (out), 66 SEG4 (out), 67 SEG3 (out), 68 SEG2 (out), 69 SEG1 (out), 70 SEG0 (out), 71 VCC (power), 72 VREF (in), 73 AVSS (power), 74 COM3 (out), 75 COM2 (out), 76 COM1 (out), 77 COM0 (out), 78 VL3 (power), 79 VL2 (power), 80 VL1 (power)

## M3823AGFFP
designator U?
QzROM 8-BIT CMOS Microcomputer, 38000/740 Series CPU, 3823 Group, 60K ROM, 2.5K RAM, 80P6N-A Pkg, shipped in blank; Published: 28-Aug-2009; DatasheetVersion: Rev.2.02, Jun-2007; PackageVersion: Sep-2005; PackageReference: PRQP0080GB-A; Publisher: Altium Limited; PackageDescription: 80-Pin Plastic Quad Flat Pack, 20 x 14 x 2.8 mm Body, 0.8 mm Pitch; Code_JEITA: P-QFP80-14x20-0.80; ComponentLink1Description: Manufacturer Link; ComponentLink1URL: http://sg.renesas.com/fmwk.jsp?cnt=740_family_landing.jsp&fp=/products/mpumcu/740_family/; ComponentLink2Description: Datasheet; ComponentLink2URL: http://documentation.renesas.com/eng/products/mpumcu/rej03b0146_3823ds.pdf; ComponentLink3Description: Packaging Specification; ComponentLink3URL: http://sg.renesas.com/media/products/common_info/package/pdf/ic/code/prqp0080gb_a.pdf
footprint PRQP0080GB-A_N (QFP, 80-Leads, Body 20x14mm, Pitch 0.8mm, IPC Medium Density)
footprint PRQP0080GB-A_L (QFP, 80-Leads, Body 20x14mm, Pitch 0.8mm, IPC High Density)
footprint PRQP0080GB-A_M (QFP, 80-Leads, Body 20x14mm, Pitch 0.8mm, IPC Low Density)
pins: 1 VL2 (power), 2 VL1 (power), 3 P6_7 / AN7 (io), 4 P6_6 / AN6 (io), 5 P6_5 / AN5 (io), 6 P6_4 / AN4 (io), 7 P6_3 / AN3 (io), 8 P6_2 / AN2 (io), 9 P6_1 / AN1 (io), 10 P6_0 / AN0 (io), 11 P5_7 / ADT (io), 12 P5_6 / TOUT (io), 13 P5_5 / CNTR1 (io), 14 P5_4 / CNTR0 (io), 15 P5_3 / RTP1 (io), 16 P5_2 / RTP0 (io), 17 P5_1 / INT3 (io), 18 P5_0 / INT2 (io), 19 P4_7 / ~{SRDY} / SOUT (io), 20 P4_6 / SCLK (io), 21 P4_5 / TXD (io), 22 P4_4 / RXD (io), 23 P4_3 / INT1 (io), 24 P4_2 / INT0 (io), 25 P4_1 / CLK OUT (io), 26 P4_0 (io), 27 ~{RESET} (in), 28 P71 / XCIN (io), 29 P70 / XCOUT (io), 30 XIN (in), 31 XOUT (out), 32 VSS (power), 33 P2_7 / KW7 (io), 34 P2_6 / KW6 (io), 35 P2_5 / KW5 (io), 36 P2_4 / KW4 (io), 37 P2_3 / KW3 (io), 38 P2_2 / KW2 (io), 39 P2_1 / KW1 (io), 40 P2_0 / KW0 (io), 41 P1_7 / SEG31 (io), 42 P1_6 / SEG30 (io), 43 P1_5 / SEG29 (io), 44 P1_4 / SEG28 (io), 45 P1_3 / SEG27 (io), 46 P1_2 / SEG26 (io), 47 P1_1 / SEG25 (io), 48 P1_0 / SEG24 (io), 49 P0_7 / SEG23 (io), 50 P0_6 / SEG22 (io), 51 P0_5 / SEG21 (io), 52 P0_4 / SEG20 (io), 53 P0_3 / SEG19 (io), 54 P0_2 / SEG18 (io), 55 P0_1 / SEG17 (io), 56 P0_0 / SEG16 (io), 57 P3_7 / SEG15 (io), 58 P3_6 / SEG14 (io), 59 P3_5 / SEG13 (io), 60 P3_4 / SEG12 (io), 61 SEG11 (out), 62 SEG10 (out), 63 SEG9 (out), 64 SEG8 (out), 65 SEG7 (out), 66 SEG6 (out), 67 SEG5 (out), 68 SEG4 (out), 69 SEG3 (out), 70 SEG2 (out), 71 SEG1 (out), 72 SEG0 (out), 73 VCC (power), 74 VREF (in), 75 AVSS (power), 76 COM3 (out), 77 COM2 (out), 78 COM1 (out), 79 COM0 (out), 80 VL3 (power)

## M3823AGFHP
designator U?
QzROM 8-BIT CMOS Microcomputer, 38000/740 Series CPU, 3823 Group, 60K ROM, 2.5K RAM, 80P6Q-A Pkg, shipped in blank; Published: 28-Aug-2009; DatasheetVersion: Rev.2.02, Jun-2007; PackageVersion: Sep-2005; PackageReference: PLQP0080KB-A; Publisher: Altium Limited; PackageDescription: 80-Pin Plastic Low Profile QFP, 12 x 12 x 1.4 mm Body, 0.5 mm Pitch; Code_JEITA: P-LQFP80-12x12-0.50; Code_IPC: SQFP50P1400X1400-80; ComponentLink1Description: Manufacturer Link; ComponentLink1URL: http://sg.renesas.com/fmwk.jsp?cnt=740_family_landing.jsp&fp=/products/mpumcu/740_family/; ComponentLink2Description: Datasheet; ComponentLink2URL: http://documentation.renesas.com/eng/products/mpumcu/rej03b0146_3823ds.pdf; ComponentLink3Description: Packaging Specification; ComponentLink3URL: http://sg.renesas.com/media/products/common_info/package/pdf/ic/code/plqp0080kb_a.pdf
footprint PLQP0080KB-A_N (Shrink QFP, 80-Leads, Body 12x12mm, Pitch 0.5mm, IPC Medium Density)
footprint PLQP0080KB-A_L (Shrink QFP, 80-Leads, Body 12x12mm, Pitch 0.5mm, IPC High Density)
footprint PLQP0080KB-A_M (Shrink QFP, 80-Leads, Body 12x12mm, Pitch 0.5mm, IPC Low Density)
pins: 1 P6_7 / AN7 (io), 2 P6_6 / AN6 (io), 3 P6_5 / AN5 (io), 4 P6_4 / AN4 (io), 5 P6_3 / AN3 (io), 6 P6_2 / AN2 (io), 7 P6_1 / AN1 (io), 8 P6_0 / AN0 (io), 9 P5_7 / ADT (io), 10 P5_6 / TOUT (io), 11 P5_5 / CNTR1 (io), 12 P5_4 / CNTR0 (io), 13 P5_3 / RTP1 (io), 14 P5_2 / RTP0 (io), 15 P5_1 / INT3 (io), 16 P5_0 / INT2 (io), 17 P4_7 / ~{SRDY} / SOUT (io), 18 P4_6 / SCLK (io), 19 P4_5 / TXD (io), 20 P4_4 / RXD (io), 21 P4_3 / INT1 (io), 22 P4_2 / INT0 (io), 23 P4_1 / CLK OUT (io), 24 P4_0 (io), 25 ~{RESET} (in), 26 P71 / XCIN (io), 27 P70 / XCOUT (io), 28 XIN (in), 29 XOUT (out), 30 VSS (power), 31 P2_7 / KW7 (io), 32 P2_6 / KW6 (io), 33 P2_5 / KW5 (io), 34 P2_4 / KW4 (io), 35 P2_3 / KW3 (io), 36 P2_2 / KW2 (io), 37 P2_1 / KW1 (io), 38 P2_0 / KW0 (io), 39 P1_7 / SEG31 (io), 40 P1_6 / SEG30 (io), 41 P1_5 / SEG29 (io), 42 P1_4 / SEG28 (io), 43 P1_3 / SEG27 (io), 44 P1_2 / SEG26 (io), 45 P1_1 / SEG25 (io), 46 P1_0 / SEG24 (io), 47 P0_7 / SEG23 (io), 48 P0_6 / SEG22 (io), 49 P0_5 / SEG21 (io), 50 P0_4 / SEG20 (io), 51 P0_3 / SEG19 (io), 52 P0_2 / SEG18 (io), 53 P0_1 / SEG17 (io), 54 P0_0 / SEG16 (io), 55 P3_7 / SEG15 (io), 56 P3_6 / SEG14 (io), 57 P3_5 / SEG13 (io), 58 P3_4 / SEG12 (io), 59 SEG11 (out), 60 SEG10 (out), 61 SEG9 (out), 62 SEG8 (out), 63 SEG7 (out), 64 SEG6 (out), 65 SEG5 (out), 66 SEG4 (out), 67 SEG3 (out), 68 SEG2 (out), 69 SEG1 (out), 70 SEG0 (out), 71 VCC (power), 72 VREF (in), 73 AVSS (power), 74 COM3 (out), 75 COM2 (out), 76 COM1 (out), 77 COM0 (out), 78 VL3 (power), 79 VL2 (power), 80 VL1 (power)

## M3826AEFFP
designator U?
OTP 8-BIT CMOS Microcomputer, 38000/740 Series CPU, 3826 Group, 60K ROM, 2.5K RAM, 100P6S-A Pkg; Published: 28-Aug-2009; DatasheetVersion: Rev.1.00, Sep-2006; PackageVersion: Sep-2005; PackageReference: PRQP0100JB-A; Publisher: Altium Limited; PackageDescription: 100-Pin Plastic Quad Flat Pack, 20 x 14 x 2.8 mm Body, 0.65 mm Pitch; Code_JEITA: P-QFP100-14x20-0.65; ComponentLink1Description: Manufacturer Link; ComponentLink1URL: http://sg.renesas.com/fmwk.jsp?cnt=740_family_landing.jsp&fp=/products/mpumcu/740_family/; ComponentLink2Description: Datasheet; ComponentLink2URL: http://documentation.renesas.com/eng/products/mpumcu/rej03b0181_3826otpds.pdf; ComponentLink3Description: Packaging Specification; ComponentLink3URL: http://sg.renesas.com/media/products/common_info/package/pdf/ic/code/prqp0100jb_a.pdf
footprint PRQP0100JB-A_N (QFP, 100-Leads, Body 20x14mm, Pitch 0.65mm, IPC Medium Density)
footprint PRQP0100JB-A_L (QFP, 100-Leads, Body 20x14mm, Pitch 0.65mm, IPC High Density)
footprint PRQP0100JB-A_M (QFP, 100-Leads, Body 20x14mm, Pitch 0.65mm, IPC Low Density)
part A pins: 3 P6_7 / AN7 (io), 4 P6_6 / AN6 (io), 5 P6_5 / AN5 (io), 6 P6_4 / AN4 (io), 7 P6_3 / SCLK22 / AN3 (io), 8 P6_2 / SCLK21 / AN2 (io), 9 P6_1 / SOUT2 / AN1 (io), 10 P6_0 / SIN2 / AN0 (io), 11 P5_7 / ADT / DA2 (io), 12 P5_6 / DA1 (io), 13 P5_5 / CNTR1 (io), 14 P5_4 / CNTR0 (io), 15 P5_3 / RTP1 (io), 16 P5_2 / RTP0 (io), 17 P5_1 / PWM1 (io), 18 P5_0 / PWM0 (io), 19 P4_7 / ~{SRDY}1 (io), 20 P4_6 / SCLK1 (io), 21 P4_5 / TXD (io), 22 P4_4 / RXD (io), 23 P4_3 / SYS CLK OUT / TOUT (io), 24 P4_2 / INT2 (io), 25 P4_1 / INT1 (io), 26 P4_0 (io), 27 P7_7 (io), 28 P7_6 (io), 29 P7_5 (io), 30 P7_4 (io), 31 P7_3 (io), 32 P7_2 (io), 33 P7_1 (io), 34 P7_0 / INT0 (io), 41 P2_7 (io), 42 P2_6 (io), 43 P2_5 (io), 44 P2_4 (io), 45 P2_3 (io), 46 P2_2 (io), 47 P2_1 (io), 48 P2_0 (io), 49 P1_7 (io), 50 P1_6 (io), 51 P1_5 / SEG39 (io), 52 P1_4 / SEG38 (io), 53 P1_3 / SEG37 (io), 54 P1_2 / SEG36 (io), 55 P1_1 / SEG35 (io), 56 P1_0 / SEG34 (io), 57 P0_7 / SEG33 (io), 58 P0_6 / SEG32 (io), 59 P0_5 / SEG31 (io), 60 P0_4 / SEG30 (io), 61 P0_3 / SEG29 (io), 62 P0_2 / SEG28 (io), 63 P0_1 / SEG27 (io), 64 P0_0 / SEG26 (io), 65 P3_7 / SEG25 (io), 66 P3_6 / SEG24 (io), 67 P3_5 / SEG23 (io), 68 P3_4 / SEG22 (io), 69 P3_3 / SEG21 (io), 70 P3_2 / SEG20 (io), 71 P3_1 / SEG19 (io), 72 P3_0 / SEG18 (io)
part B pins: 1 C1, 2 VL1 (power), 35 ~{RESET} (in), 36 XCIN (in), 37 XCOUT (out), 38 XIN (in), 39 XOUT (out), 40 VSS (power), 73 SEG17 (out), 74 SEG16 (out), 75 SEG15 (out), 76 SEG14 (out), 77 SEG13 (out), 78 SEG12 (out), 79 SEG11 (out), 80 SEG10 (out), 81 SEG9 (out), 82 SEG8 (out), 83 SEG7 (out), 84 SEG6 (out), 85 SEG5 (out), 86 SEG4 (out), 87 SEG3 (out), 88 SEG2 (out), 89 SEG1 (out), 90 SEG0 (out), 91 VCC (power), 92 VREF (in), 93 AVSS (power), 94 COM3 (out), 95 COM2 (out), 96 COM1 (out), 97 COM0 (out), 98 VL3 (power), 99 VL2 (power), 100 C2

## M3826AEFGP
designator U?
OTP 8-BIT CMOS Microcomputer, 38000/740 Series CPU, 3826 Group, 60K ROM, 2.5K RAM, 100P6Q-A Pkg; Published: 28-Aug-2009; DatasheetVersion: Rev.1.00, Sep-2006; PackageVersion: Sep-2005; PackageReference: PLQP0100KB-A; Publisher: Altium Limited; PackageDescription: 100-Pin Plastic Low Profile QFP, 14 x 14 x 1.4 mm Body, 0.5 mm Pitch; Code_JEITA: P-LQFP100-14x14-0.50; Code_IPC: SQFP50P1600X1600-100; ComponentLink1Description: Manufacturer Link; ComponentLink1URL: http://sg.renesas.com/fmwk.jsp?cnt=740_family_landing.jsp&fp=/products/mpumcu/740_family/; ComponentLink2Description: Datasheet; ComponentLink2URL: http://documentation.renesas.com/eng/products/mpumcu/rej03b0181_3826otpds.pdf; ComponentLink3Description: Packaging Specification; ComponentLink3URL: http://sg.renesas.com/media/products/common_info/package/pdf/ic/code/plqp0100kb_a.pdf
footprint PLQP0100KB-A_N (Shrink QFP, 100-Leads, Body 14x14mm, Pitch 0.5mm, IPC Medium Density)
footprint PLQP0100KB-A_L (Shrink QFP, 100-Leads, Body 14x14mm, Pitch 0.5mm, IPC High Density)
footprint PLQP0100KB-A_M (Shrink QFP, 100-Leads, Body 14x14mm, Pitch 0.5mm, IPC Low Density)
part A pins: 1 P6_7 / AN7 (io), 2 P6_6 / AN6 (io), 3 P6_5 / AN5 (io), 4 P6_4 / AN4 (io), 5 P6_3 / SCLK22 / AN3 (io), 6 P6_2 / SCLK21 / AN2 (io), 7 P6_1 / SOUT2 / AN1 (io), 8 P6_0 / SIN2 / AN0 (io), 9 P5_7 / ADT / DA2 (io), 10 P5_6 / DA1 (io), 11 P5_5 / CNTR1 (io), 12 P5_4 / CNTR0 (io), 13 P5_3 / RTP1 (io), 14 P5_2 / RTP0 (io), 15 P5_1 / PWM1 (io), 16 P5_0 / PWM0 (io), 17 P4_7 / ~{SRDY}1 (io), 18 P4_6 / SCLK1 (io), 19 P4_5 / TXD (io), 20 P4_4 / RXD (io), 21 P4_3 / SYS CLK OUT / TOUT (io), 22 P4_2 / INT2 (io), 23 P4_1 / INT1 (io), 24 P4_0 (io), 25 P7_7 (io), 26 P7_6 (io), 27 P7_5 (io), 28 P7_4 (io), 29 P7_3 (io), 30 P7_2 (io), 31 P7_1 (io), 32 P7_0 / INT0 (io), 39 P2_7 (io), 40 P2_6 (io), 41 P2_5 (io), 42 P2_4 (io), 43 P2_3 (io), 44 P2_2 (io), 45 P2_1 (io), 46 P2_0 (io), 47 P1_7 (io), 48 P1_6 (io), 49 P1_5 / SEG39 (io), 50 P1_4 / SEG38 (io), 51 P1_3 / SEG37 (io), 52 P1_2 / SEG36 (io), 53 P1_1 / SEG35 (io), 54 P1_0 / SEG34 (io), 55 P0_7 / SEG33 (io), 56 P0_6 / SEG32 (io), 57 P0_5 / SEG31 (io), 58 P0_4 / SEG30 (io), 59 P0_3 / SEG29 (io), 60 P0_2 / SEG28 (io), 61 P0_1 / SEG27 (io), 62 P0_0 / SEG26 (io), 63 P3_7 / SEG25 (io), 64 P3_6 / SEG24 (io), 65 P3_5 / SEG23 (io), 66 P3_4 / SEG22 (io), 67 P3_3 / SEG21 (io), 68 P3_2 / SEG20 (io), 69 P3_1 / SEG19 (io), 70 P3_0 / SEG18 (io)
part B pins: 33 ~{RESET} (in), 34 XCIN (in), 35 XCOUT (out), 36 XIN (in), 37 XOUT (out), 38 VSS (power), 71 SEG17 (out), 72 SEG16 (out), 73 SEG15 (out), 74 SEG14 (out), 75 SEG13 (out), 76 SEG12 (out), 77 SEG11 (out), 78 SEG10 (out), 79 SEG9 (out), 80 SEG8 (out), 81 SEG7 (out), 82 SEG6 (out), 83 SEG5 (out), 84 SEG4 (out), 85 SEG3 (out), 86 SEG2 (out), 87 SEG1 (out), 88 SEG0 (out), 89 VCC (power), 90 VREF (in), 91 AVSS (power), 92 COM3 (out), 93 COM2 (out), 94 COM1 (out), 95 COM0 (out), 96 VL3 (power), 97 VL2 (power), 98 C2, 99 C1, 100 VL1 (power)

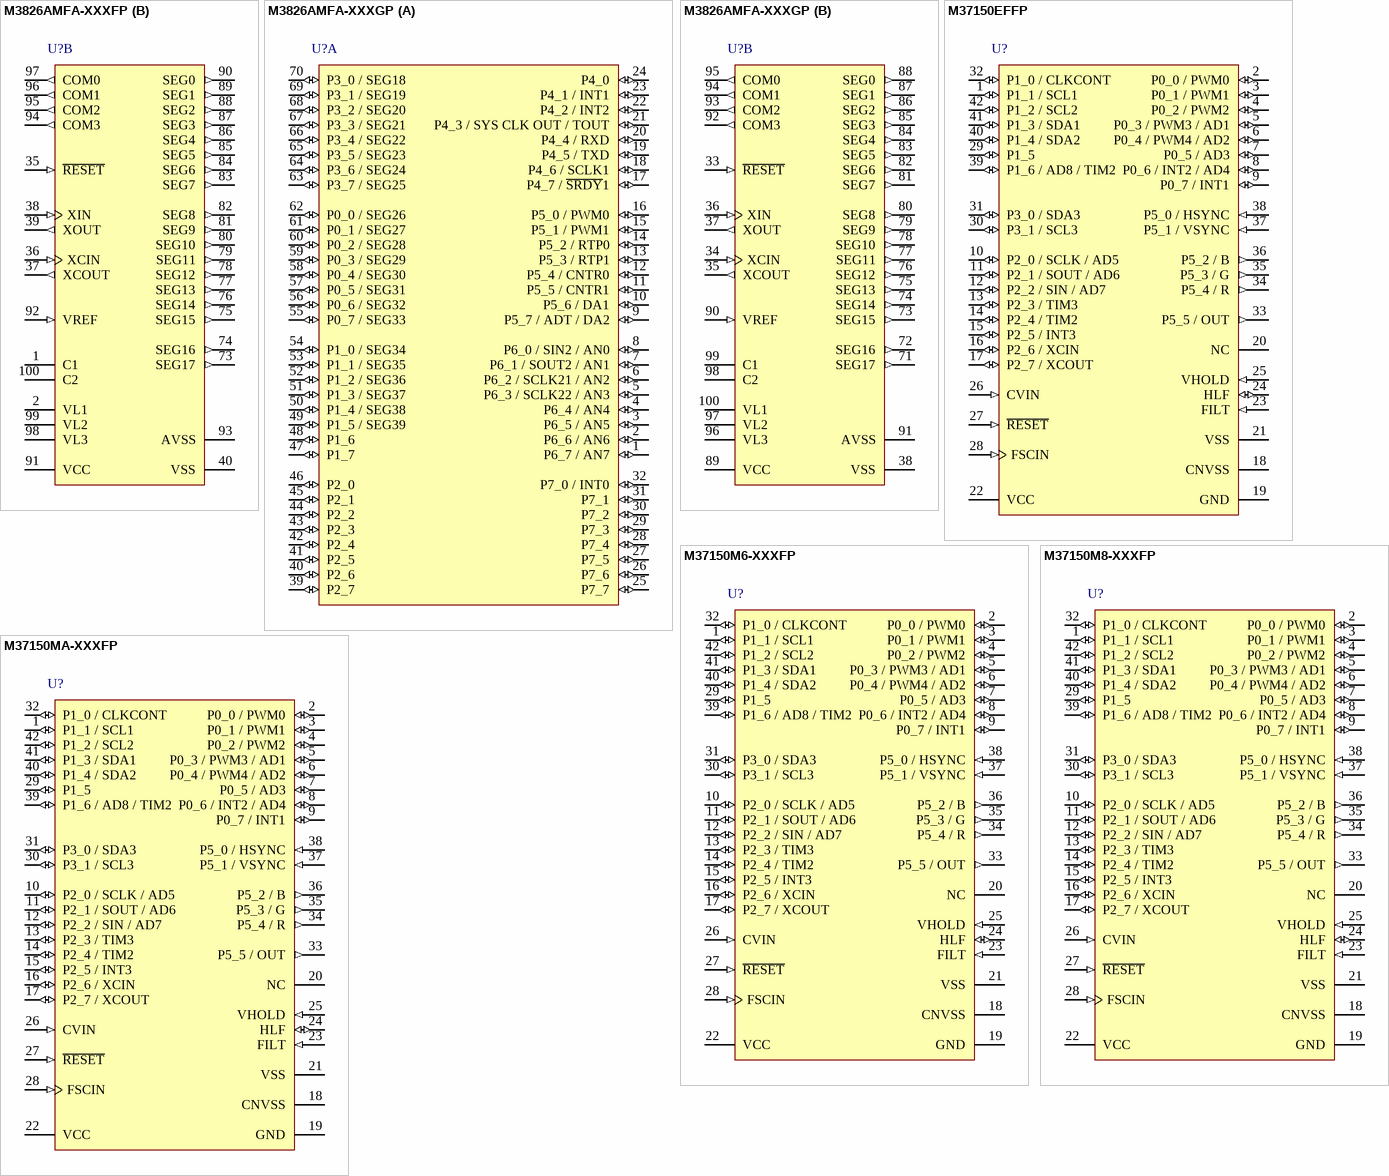
[diagram p10: symbols M3826AMFA-XXXFP to M37150MA-XXXFP]

## M3826AMFA-XXXFP
designator U?
Mask ROM 8-BIT CMOS Microcomputer, 38000/740 Series CPU, 3826 Group (A version), 60K ROM, 2.5K RAM, 100P6S-A Pkg; Published: 28-Aug-2009; DatasheetVersion: Rev.2.00, May-2006; PackageVersion: Sep-2005; PackageReference: PRQP0100JB-A; Publisher: Altium Limited; PackageDescription: 100-Pin Plastic Quad Flat Pack, 20 x 14 x 2.8 mm Body, 0.65 mm Pitch; Code_JEITA: P-QFP100-14x20-0.65; ComponentLink1Description: Manufacturer Link; ComponentLink1URL: http://sg.renesas.com/fmwk.jsp?cnt=740_family_landing.jsp&fp=/products/mpumcu/740_family/; ComponentLink2Description: Datasheet; ComponentLink2URL: http://documentation.renesas.com/eng/products/mpumcu/rej03b0029_3826ads.pdf; ComponentLink3Description: Packaging Specification; ComponentLink3URL: http://sg.renesas.com/media/products/common_info/package/pdf/ic/code/prqp0100jb_a.pdf
footprint PRQP0100JB-A_N (QFP, 100-Leads, Body 20x14mm, Pitch 0.65mm, IPC Medium Density)
footprint PRQP0100JB-A_L (QFP, 100-Leads, Body 20x14mm, Pitch 0.65mm, IPC High Density)
footprint PRQP0100JB-A_M (QFP, 100-Leads, Body 20x14mm, Pitch 0.65mm, IPC Low Density)
part A pins: 3 P6_7 / AN7 (io), 4 P6_6 / AN6 (io), 5 P6_5 / AN5 (io), 6 P6_4 / AN4 (io), 7 P6_3 / SCLK22 / AN3 (io), 8 P6_2 / SCLK21 / AN2 (io), 9 P6_1 / SOUT2 / AN1 (io), 10 P6_0 / SIN2 / AN0 (io), 11 P5_7 / ADT / DA2 (io), 12 P5_6 / DA1 (io), 13 P5_5 / CNTR1 (io), 14 P5_4 / CNTR0 (io), 15 P5_3 / RTP1 (io), 16 P5_2 / RTP0 (io), 17 P5_1 / PWM1 (io), 18 P5_0 / PWM0 (io), 19 P4_7 / ~{SRDY}1 (io), 20 P4_6 / SCLK1 (io), 21 P4_5 / TXD (io), 22 P4_4 / RXD (io), 23 P4_3 / SYS CLK OUT / TOUT (io), 24 P4_2 / INT2 (io), 25 P4_1 / INT1 (io), 26 P4_0 (io), 27 P7_7 (io), 28 P7_6 (io), 29 P7_5 (io), 30 P7_4 (io), 31 P7_3 (io), 32 P7_2 (io), 33 P7_1 (io), 34 P7_0 / INT0 (io), 41 P2_7 (io), 42 P2_6 (io), 43 P2_5 (io), 44 P2_4 (io), 45 P2_3 (io), 46 P2_2 (io), 47 P2_1 (io), 48 P2_0 (io), 49 P1_7 (io), 50 P1_6 (io), 51 P1_5 / SEG39 (io), 52 P1_4 / SEG38 (io), 53 P1_3 / SEG37 (io), 54 P1_2 / SEG36 (io), 55 P1_1 / SEG35 (io), 56 P1_0 / SEG34 (io), 57 P0_7 / SEG33 (io), 58 P0_6 / SEG32 (io), 59 P0_5 / SEG31 (io), 60 P0_4 / SEG30 (io), 61 P0_3 / SEG29 (io), 62 P0_2 / SEG28 (io), 63 P0_1 / SEG27 (io), 64 P0_0 / SEG26 (io), 65 P3_7 / SEG25 (io), 66 P3_6 / SEG24 (io), 67 P3_5 / SEG23 (io), 68 P3_4 / SEG22 (io), 69 P3_3 / SEG21 (io), 70 P3_2 / SEG20 (io), 71 P3_1 / SEG19 (io), 72 P3_0 / SEG18 (io)
part B pins: 1 C1, 2 VL1 (power), 35 ~{RESET} (in), 36 XCIN (in), 37 XCOUT (out), 38 XIN (in), 39 XOUT (out), 40 VSS (power), 73 SEG17 (out), 74 SEG16 (out), 75 SEG15 (out), 76 SEG14 (out), 77 SEG13 (out), 78 SEG12 (out), 79 SEG11 (out), 80 SEG10 (out), 81 SEG9 (out), 82 SEG8 (out), 83 SEG7 (out), 84 SEG6 (out), 85 SEG5 (out), 86 SEG4 (out), 87 SEG3 (out), 88 SEG2 (out), 89 SEG1 (out), 90 SEG0 (out), 91 VCC (power), 92 VREF (in), 93 AVSS (power), 94 COM3 (out), 95 COM2 (out), 96 COM1 (out), 97 COM0 (out), 98 VL3 (power), 99 VL2 (power), 100 C2

## M3826AMFA-XXXGP
designator U?
Mask ROM 8-BIT CMOS Microcomputer, 38000/740 Series CPU, 3826 Group (A version), 60K ROM, 2.5K RAM, 100P6Q-A Pkg; Published: 28-Aug-2009; DatasheetVersion: Rev.2.00, May-2006; PackageVersion: Sep-2005; PackageReference: PLQP0100KB-A; Publisher: Altium Limited; PackageDescription: 100-Pin Plastic Low Profile QFP, 14 x 14 x 1.4 mm Body, 0.5 mm Pitch; Code_JEITA: P-LQFP100-14x14-0.50; Code_IPC: SQFP50P1600X1600-100; ComponentLink1Description: Manufacturer Link; ComponentLink1URL: http://sg.renesas.com/fmwk.jsp?cnt=740_family_landing.jsp&fp=/products/mpumcu/740_family/; ComponentLink2Description: Datasheet; ComponentLink2URL: http://documentation.renesas.com/eng/products/mpumcu/rej03b0029_3826ads.pdf; ComponentLink3Description: Packaging Specification; ComponentLink3URL: http://sg.renesas.com/media/products/common_info/package/pdf/ic/code/plqp0100kb_a.pdf
footprint PLQP0100KB-A_N (Shrink QFP, 100-Leads, Body 14x14mm, Pitch 0.5mm, IPC Medium Density)
footprint PLQP0100KB-A_L (Shrink QFP, 100-Leads, Body 14x14mm, Pitch 0.5mm, IPC High Density)
footprint PLQP0100KB-A_M (Shrink QFP, 100-Leads, Body 14x14mm, Pitch 0.5mm, IPC Low Density)
part A pins: 1 P6_7 / AN7 (io), 2 P6_6 / AN6 (io), 3 P6_5 / AN5 (io), 4 P6_4 / AN4 (io), 5 P6_3 / SCLK22 / AN3 (io), 6 P6_2 / SCLK21 / AN2 (io), 7 P6_1 / SOUT2 / AN1 (io), 8 P6_0 / SIN2 / AN0 (io), 9 P5_7 / ADT / DA2 (io), 10 P5_6 / DA1 (io), 11 P5_5 / CNTR1 (io), 12 P5_4 / CNTR0 (io), 13 P5_3 / RTP1 (io), 14 P5_2 / RTP0 (io), 15 P5_1 / PWM1 (io), 16 P5_0 / PWM0 (io), 17 P4_7 / ~{SRDY}1 (io), 18 P4_6 / SCLK1 (io), 19 P4_5 / TXD (io), 20 P4_4 / RXD (io), 21 P4_3 / SYS CLK OUT / TOUT (io), 22 P4_2 / INT2 (io), 23 P4_1 / INT1 (io), 24 P4_0 (io), 25 P7_7 (io), 26 P7_6 (io), 27 P7_5 (io), 28 P7_4 (io), 29 P7_3 (io), 30 P7_2 (io), 31 P7_1 (io), 32 P7_0 / INT0 (io), 39 P2_7 (io), 40 P2_6 (io), 41 P2_5 (io), 42 P2_4 (io), 43 P2_3 (io), 44 P2_2 (io), 45 P2_1 (io), 46 P2_0 (io), 47 P1_7 (io), 48 P1_6 (io), 49 P1_5 / SEG39 (io), 50 P1_4 / SEG38 (io), 51 P1_3 / SEG37 (io), 52 P1_2 / SEG36 (io), 53 P1_1 / SEG35 (io), 54 P1_0 / SEG34 (io), 55 P0_7 / SEG33 (io), 56 P0_6 / SEG32 (io), 57 P0_5 / SEG31 (io), 58 P0_4 / SEG30 (io), 59 P0_3 / SEG29 (io), 60 P0_2 / SEG28 (io), 61 P0_1 / SEG27 (io), 62 P0_0 / SEG26 (io), 63 P3_7 / SEG25 (io), 64 P3_6 / SEG24 (io), 65 P3_5 / SEG23 (io), 66 P3_4 / SEG22 (io), 67 P3_3 / SEG21 (io), 68 P3_2 / SEG20 (io), 69 P3_1 / SEG19 (io), 70 P3_0 / SEG18 (io)
part B pins: 33 ~{RESET} (in), 34 XCIN (in), 35 XCOUT (out), 36 XIN (in), 37 XOUT (out), 38 VSS (power), 71 SEG17 (out), 72 SEG16 (out), 73 SEG15 (out), 74 SEG14 (out), 75 SEG13 (out), 76 SEG12 (out), 77 SEG11 (out), 78 SEG10 (out), 79 SEG9 (out), 80 SEG8 (out), 81 SEG7 (out), 82 SEG6 (out), 83 SEG5 (out), 84 SEG4 (out), 85 SEG3 (out), 86 SEG2 (out), 87 SEG1 (out), 88 SEG0 (out), 89 VCC (power), 90 VREF (in), 91 AVSS (power), 92 COM3 (out), 93 COM2 (out), 94 COM1 (out), 95 COM0 (out), 96 VL3 (power), 97 VL2 (power), 98 C2, 99 C1, 100 VL1 (power)

## M37150EFFP
designator U?
OTP 8-BIT CMOS Microcomputer, 7200 Series CPU, 7150 Group, 60K ROM, 2K RAM, 42P2R-E Pkg; ComponentAvailability: Check status with vendor; Published: 28-Aug-2009; DatasheetVersion: Rev.1.00, Nov-2002; PackageVersion: Sep-2005; PackageReference: PRSP0042GA-B; Publisher: Altium Limited; PackageDescription: 42-Pin Plastic Shrink SOP, 17.5 x 8.4 mm Body, 0.8 mm Pitch; Code_JEITA: P-SSOP42-8.4x17.5-0.80; ComponentLink1Description: Manufacturer Link; ComponentLink1URL: http://sg.renesas.com/fmwk.jsp?cnt=740_family_landing.jsp&fp=/products/mpumcu/740_family/; ComponentLink2Description: Datasheet; ComponentLink2URL: http://documentation.renesas.com/eng/products/mpumcu/rej03b0128_7150ds.pdf; ComponentLink3Description: Packaging Specification; ComponentLink3URL: http://sg.renesas.com/media/products/common_info/package/pdf/ic/code/prsp0042ga_b.pdf
footprint PRSP0042GA-B_N (SOP, 42-Leads, Body 17.5x8.4mm, Pitch 0.8mm, IPC Medium Density)
footprint PRSP0042GA-B_L (SOP, 42-Leads, Body 17.5x8.4mm, Pitch 0.8mm, IPC High Density)
footprint PRSP0042GA-B_M (SOP, 42-Leads, Body 17.5x8.4mm, Pitch 0.8mm, IPC Low Density)
pins: 1 P1_1 / SCL1 (io), 2 P0_0 / PWM0 (io), 3 P0_1 / PWM1 (io), 4 P0_2 / PWM2 (io), 5 P0_3 / PWM3 / AD1 (io), 6 P0_4 / PWM4 / AD2 (io), 7 P0_5 / AD3 (io), 8 P0_6 / INT2 / AD4 (io), 9 P0_7 / INT1 (io), 10 P2_0 / SCLK / AD5 (io), 11 P2_1 / SOUT / AD6 (io), 12 P2_2 / SIN / AD7 (io), 13 P2_3 / TIM3 (io), 14 P2_4 / TIM2 (io), 15 P2_5 / INT3 (io), 16 P2_6 / XCIN (io), 17 P2_7 / XCOUT (io), 18 CNVSS (power), 19 GND (power), 20 NC, 21 VSS (power), 22 VCC (power), 23 FILT (in), 24 HLF (io), 25 VHOLD (in), 26 CVIN (in), 27 ~{RESET} (in), 28 FSCIN (in), 29 P1_5 (io), 30 P3_1 / SCL3 (io), 31 P3_0 / SDA3 (io), 32 P1_0 / CLKCONT (io), 33 P5_5 / OUT (out), 34 P5_4 / R (out), 35 P5_3 / G (out), 36 P5_2 / B (out), 37 P5_1 / VSYNC (in), 38 P5_0 / HSYNC (in), 39 P1_6 / AD8 / TIM2 (io), 40 P1_4 / SDA2 (io), 41 P1_3 / SDA1 (io), 42 P1_2 / SCL2 (io)

## M37150M6-XXXFP
designator U?
Mask ROM 8-BIT CMOS Microcomputer, 7200 Series CPU, 7150 Group, 24K ROM, 1K RAM, 42P2R-E Pkg; ComponentAvailability: Check status with vendor; Published: 28-Aug-2009; DatasheetVersion: Rev.1.00, Nov-2002; PackageVersion: Sep-2005; PackageReference: PRSP0042GA-B; Publisher: Altium Limited; PackageDescription: 42-Pin Plastic Shrink SOP, 17.5 x 8.4 mm Body, 0.8 mm Pitch; Code_JEITA: P-SSOP42-8.4x17.5-0.80; ComponentLink1Description: Manufacturer Link; ComponentLink1URL: http://sg.renesas.com/fmwk.jsp?cnt=740_family_landing.jsp&fp=/products/mpumcu/740_family/; ComponentLink2Description: Datasheet; ComponentLink2URL: http://documentation.renesas.com/eng/products/mpumcu/rej03b0128_7150ds.pdf; ComponentLink3Description: Packaging Specification; ComponentLink3URL: http://sg.renesas.com/media/products/common_info/package/pdf/ic/code/prsp0042ga_b.pdf
footprint PRSP0042GA-B_N (SOP, 42-Leads, Body 17.5x8.4mm, Pitch 0.8mm, IPC Medium Density)
footprint PRSP0042GA-B_L (SOP, 42-Leads, Body 17.5x8.4mm, Pitch 0.8mm, IPC High Density)
footprint PRSP0042GA-B_M (SOP, 42-Leads, Body 17.5x8.4mm, Pitch 0.8mm, IPC Low Density)
pins: 1 P1_1 / SCL1 (io), 2 P0_0 / PWM0 (io), 3 P0_1 / PWM1 (io), 4 P0_2 / PWM2 (io), 5 P0_3 / PWM3 / AD1 (io), 6 P0_4 / PWM4 / AD2 (io), 7 P0_5 / AD3 (io), 8 P0_6 / INT2 / AD4 (io), 9 P0_7 / INT1 (io), 10 P2_0 / SCLK / AD5 (io), 11 P2_1 / SOUT / AD6 (io), 12 P2_2 / SIN / AD7 (io), 13 P2_3 / TIM3 (io), 14 P2_4 / TIM2 (io), 15 P2_5 / INT3 (io), 16 P2_6 / XCIN (io), 17 P2_7 / XCOUT (io), 18 CNVSS (power), 19 GND (power), 20 NC, 21 VSS (power), 22 VCC (power), 23 FILT (in), 24 HLF (io), 25 VHOLD (in), 26 CVIN (in), 27 ~{RESET} (in), 28 FSCIN (in), 29 P1_5 (io), 30 P3_1 / SCL3 (io), 31 P3_0 / SDA3 (io), 32 P1_0 / CLKCONT (io), 33 P5_5 / OUT (out), 34 P5_4 / R (out), 35 P5_3 / G (out), 36 P5_2 / B (out), 37 P5_1 / VSYNC (in), 38 P5_0 / HSYNC (in), 39 P1_6 / AD8 / TIM2 (io), 40 P1_4 / SDA2 (io), 41 P1_3 / SDA1 (io), 42 P1_2 / SCL2 (io)

## M37150M8-XXXFP
designator U?
Mask ROM 8-BIT CMOS Microcomputer, 7200 Series CPU, 7150 Group, 32K ROM, 1152 bytes RAM, 42P2R-E Pkg; ComponentAvailability: Check status with vendor; Published: 28-Aug-2009; DatasheetVersion: Rev.1.00, Nov-2002; PackageVersion: Sep-2005; PackageReference: PRSP0042GA-B; Publisher: Altium Limited; PackageDescription: 42-Pin Plastic Shrink SOP, 17.5 x 8.4 mm Body, 0.8 mm Pitch; Code_JEITA: P-SSOP42-8.4x17.5-0.80; ComponentLink1Description: Manufacturer Link; ComponentLink1URL: http://sg.renesas.com/fmwk.jsp?cnt=740_family_landing.jsp&fp=/products/mpumcu/740_family/; ComponentLink2Description: Datasheet; ComponentLink2URL: http://documentation.renesas.com/eng/products/mpumcu/rej03b0128_7150ds.pdf; ComponentLink3Description: Packaging Specification; ComponentLink3URL: http://sg.renesas.com/media/products/common_info/package/pdf/ic/code/prsp0042ga_b.pdf
footprint PRSP0042GA-B_N (SOP, 42-Leads, Body 17.5x8.4mm, Pitch 0.8mm, IPC Medium Density)
footprint PRSP0042GA-B_L (SOP, 42-Leads, Body 17.5x8.4mm, Pitch 0.8mm, IPC High Density)
footprint PRSP0042GA-B_M (SOP, 42-Leads, Body 17.5x8.4mm, Pitch 0.8mm, IPC Low Density)
pins: 1 P1_1 / SCL1 (io), 2 P0_0 / PWM0 (io), 3 P0_1 / PWM1 (io), 4 P0_2 / PWM2 (io), 5 P0_3 / PWM3 / AD1 (io), 6 P0_4 / PWM4 / AD2 (io), 7 P0_5 / AD3 (io), 8 P0_6 / INT2 / AD4 (io), 9 P0_7 / INT1 (io), 10 P2_0 / SCLK / AD5 (io), 11 P2_1 / SOUT / AD6 (io), 12 P2_2 / SIN / AD7 (io), 13 P2_3 / TIM3 (io), 14 P2_4 / TIM2 (io), 15 P2_5 / INT3 (io), 16 P2_6 / XCIN (io), 17 P2_7 / XCOUT (io), 18 CNVSS (power), 19 GND (power), 20 NC, 21 VSS (power), 22 VCC (power), 23 FILT (in), 24 HLF (io), 25 VHOLD (in), 26 CVIN (in), 27 ~{RESET} (in), 28 FSCIN (in), 29 P1_5 (io), 30 P3_1 / SCL3 (io), 31 P3_0 / SDA3 (io), 32 P1_0 / CLKCONT (io), 33 P5_5 / OUT (out), 34 P5_4 / R (out), 35 P5_3 / G (out), 36 P5_2 / B (out), 37 P5_1 / VSYNC (in), 38 P5_0 / HSYNC (in), 39 P1_6 / AD8 / TIM2 (io), 40 P1_4 / SDA2 (io), 41 P1_3 / SDA1 (io), 42 P1_2 / SCL2 (io)

## M37150MA-XXXFP
designator U?
Mask ROM 8-BIT CMOS Microcomputer, 7200 Series CPU, 7150 Group, 40K ROM, 1472 bytes RAM, 42P2R-E Pkg; ComponentAvailability: Check status with vendor; Published: 28-Aug-2009; DatasheetVersion: Rev.1.00, Nov-2002; PackageVersion: Sep-2005; PackageReference: PRSP0042GA-B; Publisher: Altium Limited; PackageDescription: 42-Pin Plastic Shrink SOP, 17.5 x 8.4 mm Body, 0.8 mm Pitch; Code_JEITA: P-SSOP42-8.4x17.5-0.80; ComponentLink1Description: Manufacturer Link; ComponentLink1URL: http://sg.renesas.com/fmwk.jsp?cnt=740_family_landing.jsp&fp=/products/mpumcu/740_family/; ComponentLink2Description: Datasheet; ComponentLink2URL: http://documentation.renesas.com/eng/products/mpumcu/rej03b0128_7150ds.pdf; ComponentLink3Description: Packaging Specification; ComponentLink3URL: http://sg.renesas.com/media/products/common_info/package/pdf/ic/code/prsp0042ga_b.pdf
footprint PRSP0042GA-B_N (SOP, 42-Leads, Body 17.5x8.4mm, Pitch 0.8mm, IPC Medium Density)
footprint PRSP0042GA-B_L (SOP, 42-Leads, Body 17.5x8.4mm, Pitch 0.8mm, IPC High Density)
footprint PRSP0042GA-B_M (SOP, 42-Leads, Body 17.5x8.4mm, Pitch 0.8mm, IPC Low Density)
pins: 1 P1_1 / SCL1 (io), 2 P0_0 / PWM0 (io), 3 P0_1 / PWM1 (io), 4 P0_2 / PWM2 (io), 5 P0_3 / PWM3 / AD1 (io), 6 P0_4 / PWM4 / AD2 (io), 7 P0_5 / AD3 (io), 8 P0_6 / INT2 / AD4 (io), 9 P0_7 / INT1 (io), 10 P2_0 / SCLK / AD5 (io), 11 P2_1 / SOUT / AD6 (io), 12 P2_2 / SIN / AD7 (io), 13 P2_3 / TIM3 (io), 14 P2_4 / TIM2 (io), 15 P2_5 / INT3 (io), 16 P2_6 / XCIN (io), 17 P2_7 / XCOUT (io), 18 CNVSS (power), 19 GND (power), 20 NC, 21 VSS (power), 22 VCC (power), 23 FILT (in), 24 HLF (io), 25 VHOLD (in), 26 CVIN (in), 27 ~{RESET} (in), 28 FSCIN (in), 29 P1_5 (io), 30 P3_1 / SCL3 (io), 31 P3_0 / SDA3 (io), 32 P1_0 / CLKCONT (io), 33 P5_5 / OUT (out), 34 P5_4 / R (out), 35 P5_3 / G (out), 36 P5_2 / B (out), 37 P5_1 / VSYNC (in), 38 P5_0 / HSYNC (in), 39 P1_6 / AD8 / TIM2 (io), 40 P1_4 / SDA2 (io), 41 P1_3 / SDA1 (io), 42 P1_2 / SCL2 (io)

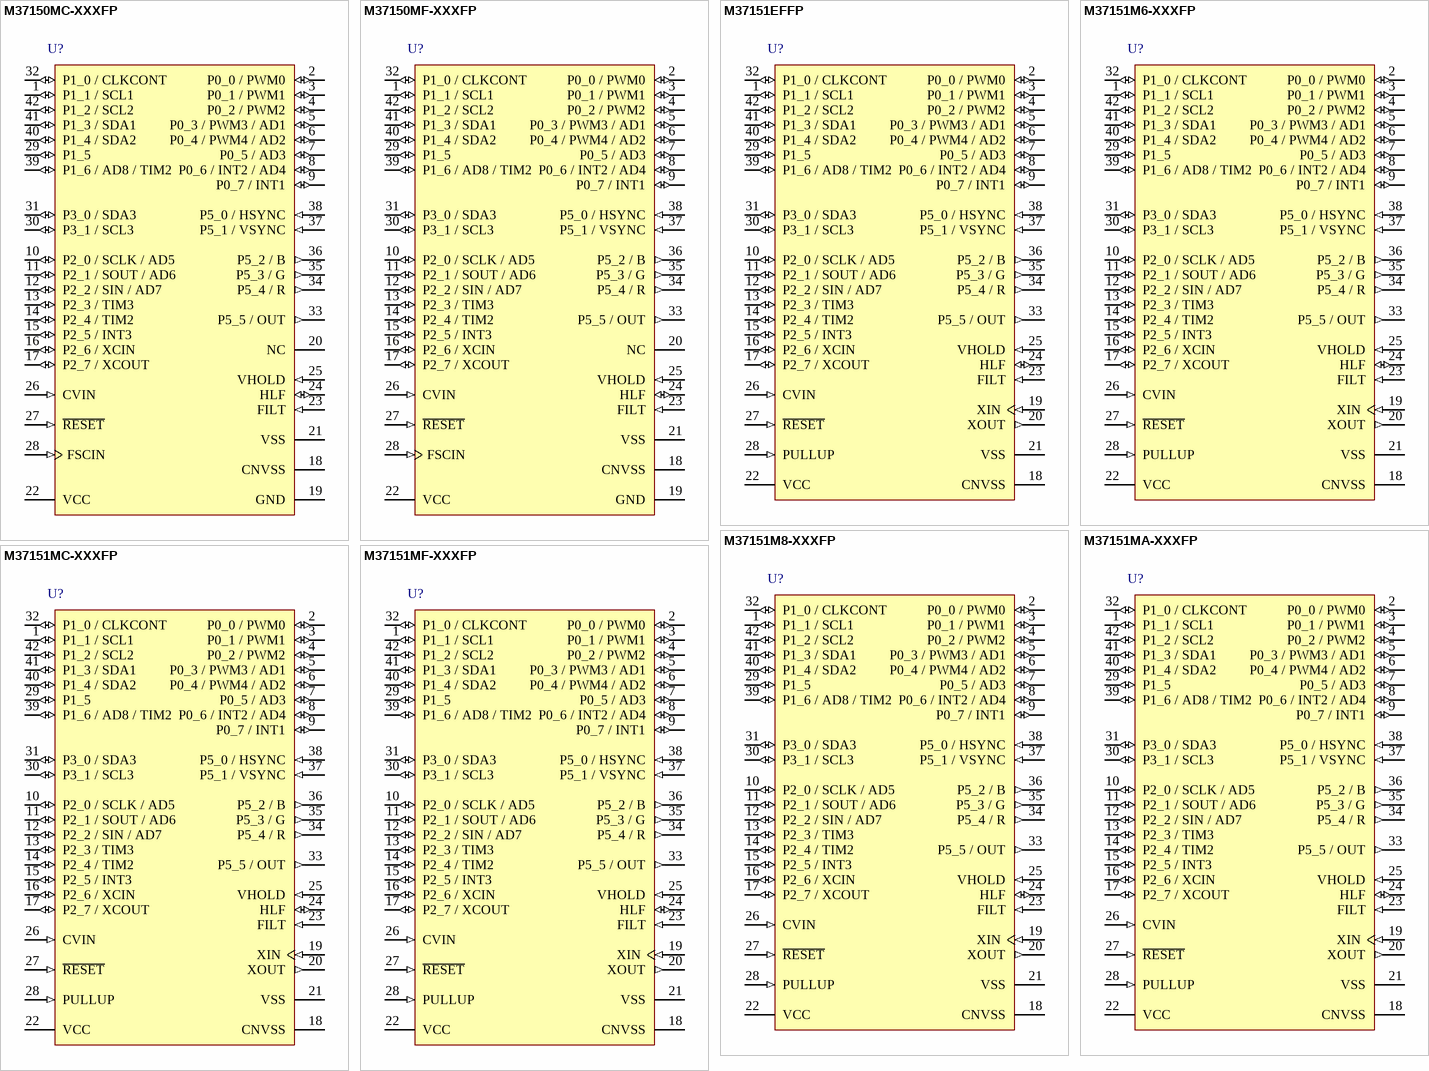
[diagram p11: symbols M37150MC-XXXFP to M37151MF-XXXFP]